# Altium integrated library Renesas Microcontroller R8C.IntLib: 628 symbols (part 24 of 33)
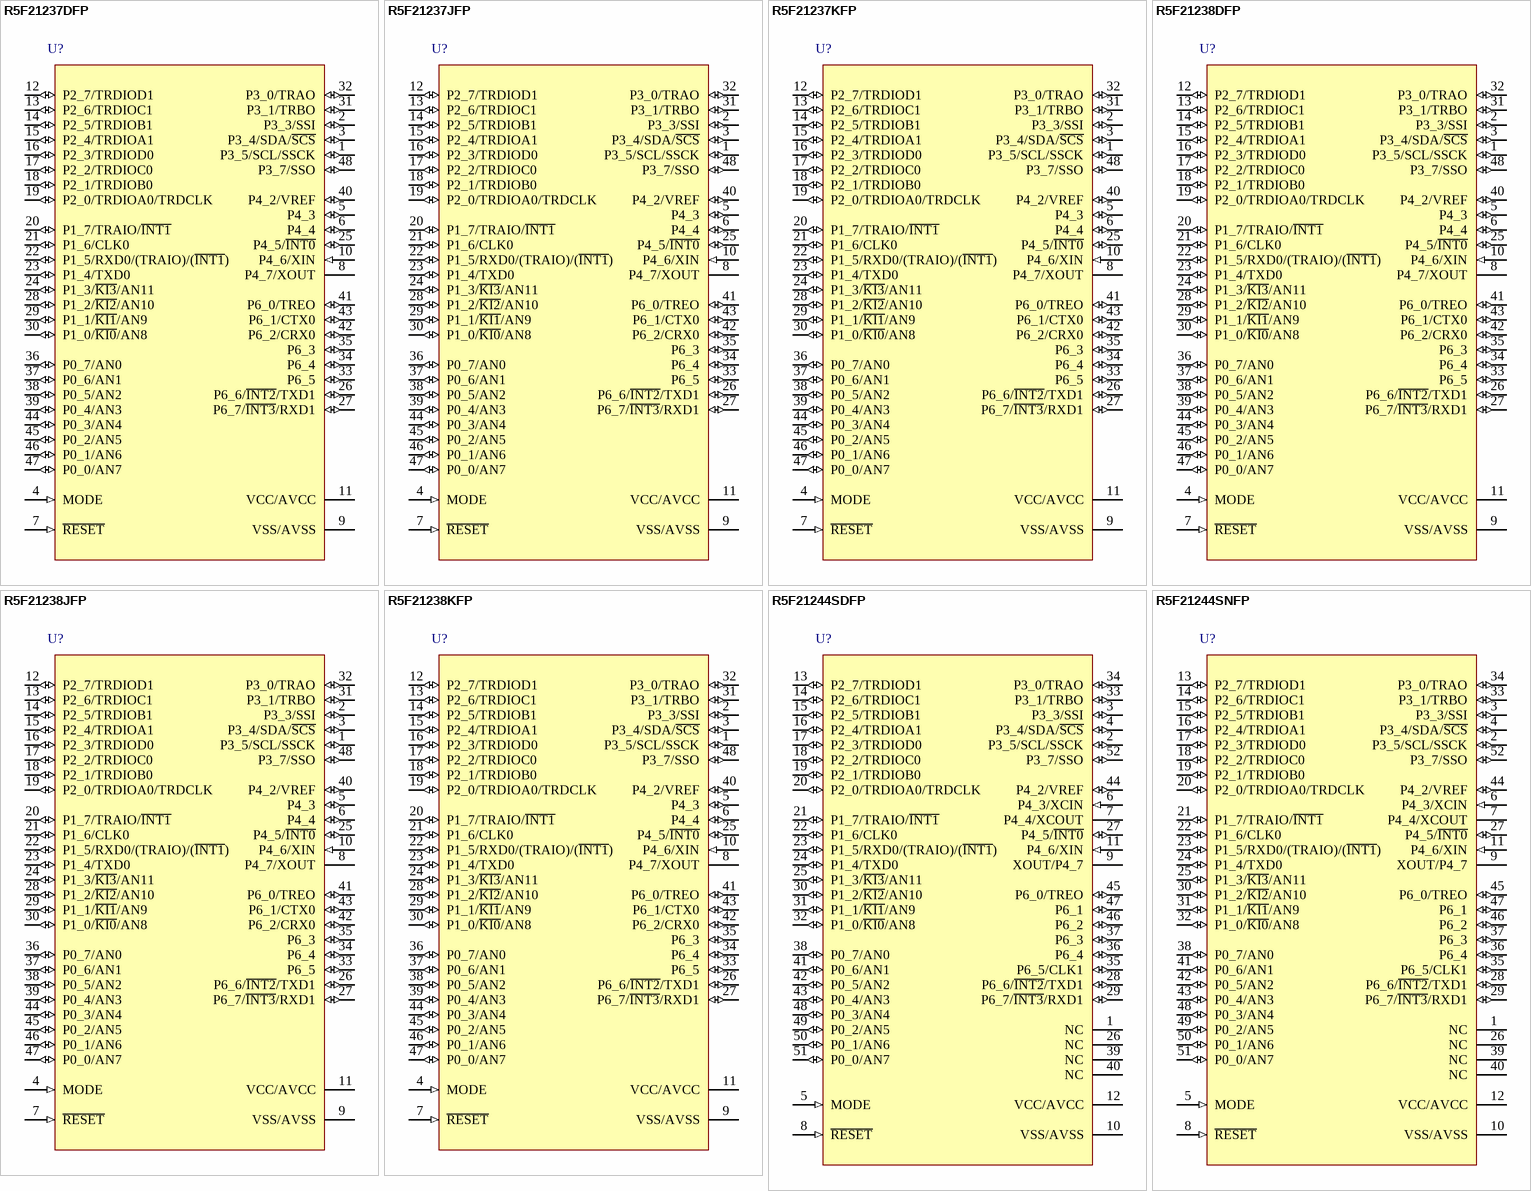
[diagram p139: symbols R5F21237DFP to R5F21244SNFP]

## R5F21238DFP
designator U?
R8C/23 Group Single Chip 16-Bit CMOS MCU, 64K ROM + 1K x2 Data Flash, 3K RAM, D Version; Published: 30-Oct-2009; DatasheetVersion: Rev.2.00, Aug-2008; PackageVersion: Oct-2005; PackageReference: PLQP0048KB-A; Publisher: Altium Limited; PackageDescription: 48-Pin Plastic Low Profile QFP, 7 x 7 x 1.4 mm Body, 0.5 mm Pitch; Code_JEITA: P-LQFP48-7x7-0.50; Code_IPC: SQFP50P900X900-48; ComponentLink1Description: Manufacturer Link; ComponentLink1URL: http://sg.renesas.com/fmwk.jsp?cnt=r8c_family_landing.jsp&fp=/products/mpumcu/r8c_family/; ComponentLink2Description: Datasheet; ComponentLink2URL: http://documentation.renesas.com/eng/products/mpumcu/rej03b0097_r8c2223ds.pdf; ComponentLink3Description: Packaging Specification; ComponentLink3URL: http://sg.renesas.com/media/products/common_info/package/pdf/ic/code/plqp0048kb_a.pdf
footprint PLQP0048KB-A_N (Shrink QFP, 48-Leads, Body 7x7mm, Pitch 0.5mm, IPC Medium Density)
footprint PLQP0048KB-A_L (Shrink QFP, 48-Leads, Body 7x7mm, Pitch 0.5mm, IPC High Density)
footprint PLQP0048KB-A_M (Shrink QFP, 48-Leads, Body 7x7mm, Pitch 0.5mm, IPC Low Density)
pins: 1 P3_5/SCL/SSCK (io), 2 P3_3/SSI (io), 3 P3_4/SDA/~{SCS} (io), 4 MODE (in), 5 P4_3 (io), 6 P4_4 (io), 7 ~{RESET} (in), 8 P4_7/XOUT, 9 VSS/AVSS (power), 10 P4_6/XIN (in), 11 VCC/AVCC (power), 12 P2_7/TRDIOD1 (io), 13 P2_6/TRDIOC1 (io), 14 P2_5/TRDIOB1 (io), 15 P2_4/TRDIOA1 (io), 16 P2_3/TRDIOD0 (io), 17 P2_2/TRDIOC0 (io), 18 P2_1/TRDIOB0 (io), 19 P2_0/TRDIOA0/TRDCLK (io), 20 P1_7/TRAIO/~{INT1} (io), 21 P1_6/CLK0 (io), 22 P1_5/RXD0/(TRAIO)/(~{INT1}) (io), 23 P1_4/TXD0 (io), 24 P1_3/~{KI3}/AN11 (io), 25 P4_5/~{INT0} (io), 26 P6_6/~{INT2}/TXD1 (io), 27 P6_7/~{INT3}/RXD1 (io), 28 P1_2/~{KI2}/AN10 (io), 29 P1_1/~{KI1}/AN9 (io), 30 P1_0/~{KI0}/AN8 (io), 31 P3_1/TRBO (io), 32 P3_0/TRAO (io), 33 P6_5 (io), 34 P6_4 (io), 35 P6_3 (io), 36 P0_7/AN0 (io), 37 P0_6/AN1 (io), 38 P0_5/AN2 (io), 39 P0_4/AN3 (io), 40 P4_2/VREF (io), 41 P6_0/TREO (io), 42 P6_2/CRX0 (io), 43 P6_1/CTX0 (io), 44 P0_3/AN4 (io), 45 P0_2/AN5 (io), 46 P0_1/AN6 (io), 47 P0_0/AN7 (io), 48 P3_7/SSO (io)

## R5F21238JFP
designator U?
R8C/23 Group Single Chip 16-Bit CMOS MCU, 64K ROM + 1K x2 Data Flash, 3K RAM, J Version; Published: 30-Oct-2009; DatasheetVersion: Rev.2.00, Aug-2008; PackageVersion: Oct-2005; PackageReference: PLQP0048KB-A; Publisher: Altium Limited; PackageDescription: 48-Pin Plastic Low Profile QFP, 7 x 7 x 1.4 mm Body, 0.5 mm Pitch; Code_JEITA: P-LQFP48-7x7-0.50; Code_IPC: SQFP50P900X900-48; ComponentLink1Description: Manufacturer Link; ComponentLink1URL: http://sg.renesas.com/fmwk.jsp?cnt=r8c_family_landing.jsp&fp=/products/mpumcu/r8c_family/; ComponentLink2Description: Datasheet; ComponentLink2URL: http://documentation.renesas.com/eng/products/mpumcu/rej03b0097_r8c2223ds.pdf; ComponentLink3Description: Packaging Specification; ComponentLink3URL: http://sg.renesas.com/media/products/common_info/package/pdf/ic/code/plqp0048kb_a.pdf
footprint PLQP0048KB-A_N (Shrink QFP, 48-Leads, Body 7x7mm, Pitch 0.5mm, IPC Medium Density)
footprint PLQP0048KB-A_L (Shrink QFP, 48-Leads, Body 7x7mm, Pitch 0.5mm, IPC High Density)
footprint PLQP0048KB-A_M (Shrink QFP, 48-Leads, Body 7x7mm, Pitch 0.5mm, IPC Low Density)
pins: 1 P3_5/SCL/SSCK (io), 2 P3_3/SSI (io), 3 P3_4/SDA/~{SCS} (io), 4 MODE (in), 5 P4_3 (io), 6 P4_4 (io), 7 ~{RESET} (in), 8 P4_7/XOUT, 9 VSS/AVSS (power), 10 P4_6/XIN (in), 11 VCC/AVCC (power), 12 P2_7/TRDIOD1 (io), 13 P2_6/TRDIOC1 (io), 14 P2_5/TRDIOB1 (io), 15 P2_4/TRDIOA1 (io), 16 P2_3/TRDIOD0 (io), 17 P2_2/TRDIOC0 (io), 18 P2_1/TRDIOB0 (io), 19 P2_0/TRDIOA0/TRDCLK (io), 20 P1_7/TRAIO/~{INT1} (io), 21 P1_6/CLK0 (io), 22 P1_5/RXD0/(TRAIO)/(~{INT1}) (io), 23 P1_4/TXD0 (io), 24 P1_3/~{KI3}/AN11 (io), 25 P4_5/~{INT0} (io), 26 P6_6/~{INT2}/TXD1 (io), 27 P6_7/~{INT3}/RXD1 (io), 28 P1_2/~{KI2}/AN10 (io), 29 P1_1/~{KI1}/AN9 (io), 30 P1_0/~{KI0}/AN8 (io), 31 P3_1/TRBO (io), 32 P3_0/TRAO (io), 33 P6_5 (io), 34 P6_4 (io), 35 P6_3 (io), 36 P0_7/AN0 (io), 37 P0_6/AN1 (io), 38 P0_5/AN2 (io), 39 P0_4/AN3 (io), 40 P4_2/VREF (io), 41 P6_0/TREO (io), 42 P6_2/CRX0 (io), 43 P6_1/CTX0 (io), 44 P0_3/AN4 (io), 45 P0_2/AN5 (io), 46 P0_1/AN6 (io), 47 P0_0/AN7 (io), 48 P3_7/SSO (io)

## R5F21238KFP
designator U?
R8C/23 Group Single Chip 16-Bit CMOS MCU, 64K ROM + 1K x2 Data Flash, 3K RAM, K Version; Published: 30-Oct-2009; DatasheetVersion: Rev.2.00, Aug-2008; PackageVersion: Oct-2005; PackageReference: PLQP0048KB-A; Publisher: Altium Limited; PackageDescription: 48-Pin Plastic Low Profile QFP, 7 x 7 x 1.4 mm Body, 0.5 mm Pitch; Code_JEITA: P-LQFP48-7x7-0.50; Code_IPC: SQFP50P900X900-48; ComponentLink1Description: Manufacturer Link; ComponentLink1URL: http://sg.renesas.com/fmwk.jsp?cnt=r8c_family_landing.jsp&fp=/products/mpumcu/r8c_family/; ComponentLink2Description: Datasheet; ComponentLink2URL: http://documentation.renesas.com/eng/products/mpumcu/rej03b0097_r8c2223ds.pdf; ComponentLink3Description: Packaging Specification; ComponentLink3URL: http://sg.renesas.com/media/products/common_info/package/pdf/ic/code/plqp0048kb_a.pdf
footprint PLQP0048KB-A_N (Shrink QFP, 48-Leads, Body 7x7mm, Pitch 0.5mm, IPC Medium Density)
footprint PLQP0048KB-A_L (Shrink QFP, 48-Leads, Body 7x7mm, Pitch 0.5mm, IPC High Density)
footprint PLQP0048KB-A_M (Shrink QFP, 48-Leads, Body 7x7mm, Pitch 0.5mm, IPC Low Density)
pins: 1 P3_5/SCL/SSCK (io), 2 P3_3/SSI (io), 3 P3_4/SDA/~{SCS} (io), 4 MODE (in), 5 P4_3 (io), 6 P4_4 (io), 7 ~{RESET} (in), 8 P4_7/XOUT, 9 VSS/AVSS (power), 10 P4_6/XIN (in), 11 VCC/AVCC (power), 12 P2_7/TRDIOD1 (io), 13 P2_6/TRDIOC1 (io), 14 P2_5/TRDIOB1 (io), 15 P2_4/TRDIOA1 (io), 16 P2_3/TRDIOD0 (io), 17 P2_2/TRDIOC0 (io), 18 P2_1/TRDIOB0 (io), 19 P2_0/TRDIOA0/TRDCLK (io), 20 P1_7/TRAIO/~{INT1} (io), 21 P1_6/CLK0 (io), 22 P1_5/RXD0/(TRAIO)/(~{INT1}) (io), 23 P1_4/TXD0 (io), 24 P1_3/~{KI3}/AN11 (io), 25 P4_5/~{INT0} (io), 26 P6_6/~{INT2}/TXD1 (io), 27 P6_7/~{INT3}/RXD1 (io), 28 P1_2/~{KI2}/AN10 (io), 29 P1_1/~{KI1}/AN9 (io), 30 P1_0/~{KI0}/AN8 (io), 31 P3_1/TRBO (io), 32 P3_0/TRAO (io), 33 P6_5 (io), 34 P6_4 (io), 35 P6_3 (io), 36 P0_7/AN0 (io), 37 P0_6/AN1 (io), 38 P0_5/AN2 (io), 39 P0_4/AN3 (io), 40 P4_2/VREF (io), 41 P6_0/TREO (io), 42 P6_2/CRX0 (io), 43 P6_1/CTX0 (io), 44 P0_3/AN4 (io), 45 P0_2/AN5 (io), 46 P0_1/AN6 (io), 47 P0_0/AN7 (io), 48 P3_7/SSO (io)

## R5F21244SDFP
designator U?
R8C/24 Group Single Chip 16-Bit CMOS MCU, 16K ROM, 1K RAM, D Version; Published: 30-Oct-2009; DatasheetVersion: Rev.3.00, Feb-2008; PackageVersion: Nov-2007; PackageReference: PLQP0052JA-A; Publisher: Altium Limited; PackageDescription: 52-Pin Plastic Low Profile QFP, 10 x 10 x 1.4 mm Body, 0.65 mm Pitch; Code_JEITA: P-LQFP52-10x10-0.65; ComponentLink1Description: Manufacturer Link; ComponentLink1URL: http://sg.renesas.com/fmwk.jsp?cnt=r8c_family_landing.jsp&fp=/products/mpumcu/r8c_family/; ComponentLink2Description: Datasheet; ComponentLink2URL: http://documentation.renesas.com/eng/products/mpumcu/rej03b0117_r8c2425ds.pdf; ComponentLink3Description: Packaging Specification; ComponentLink3URL: http://sg.renesas.com/media/products/common_info/package/pdf/ic/code/plqp0052ja_a.pdf
footprint PLQP0052JA-A_N (QFP, 52-Leads, Body 10x10mm, Pitch 0.65mm, IPC Medium Density)
footprint PLQP0052JA-A_L (QFP, 52-Leads, Body 10x10mm, Pitch 0.65mm, IPC High Density)
footprint PLQP0052JA-A_M (QFP, 52-Leads, Body 10x10mm, Pitch 0.65mm, IPC Low Density)
pins: 1 NC, 2 P3_5/SCL/SSCK (io), 3 P3_3/SSI (io), 4 P3_4/SDA/~{SCS} (io), 5 MODE (in), 6 P4_3/XCIN (in), 7 P4_4/XCOUT, 8 ~{RESET} (in), 9 XOUT/P4_7, 10 VSS/AVSS (power), 11 P4_6/XIN (in), 12 VCC/AVCC (power), 13 P2_7/TRDIOD1 (io), 14 P2_6/TRDIOC1 (io), 15 P2_5/TRDIOB1 (io), 16 P2_4/TRDIOA1 (io), 17 P2_3/TRDIOD0 (io), 18 P2_2/TRDIOC0 (io), 19 P2_1/TRDIOB0 (io), 20 P2_0/TRDIOA0/TRDCLK (io), 21 P1_7/TRAIO/~{INT1} (io), 22 P1_6/CLK0 (io), 23 P1_5/RXD0/(TRAIO)/(~{INT1}) (io), 24 P1_4/TXD0 (io), 25 P1_3/~{KI3}/AN11 (io), 26 NC, 27 P4_5/~{INT0} (io), 28 P6_6/~{INT2}/TXD1 (io), 29 P6_7/~{INT3}/RXD1 (io), 30 P1_2/~{KI2}/AN10 (io), 31 P1_1/~{KI1}/AN9 (io), 32 P1_0/~{KI0}/AN8 (io), 33 P3_1/TRBO (io), 34 P3_0/TRAO (io), 35 P6_5/CLK1 (io), 36 P6_4 (io), 37 P6_3 (io), 38 P0_7/AN0 (io), 39 NC, 40 NC, 41 P0_6/AN1 (io), 42 P0_5/AN2 (io), 43 P0_4/AN3 (io), 44 P4_2/VREF (io), 45 P6_0/TREO (io), 46 P6_2 (io), 47 P6_1 (io), 48 P0_3/AN4 (io), 49 P0_2/AN5 (io), 50 P0_1/AN6 (io), 51 P0_0/AN7 (io), 52 P3_7/SSO (io)

## R5F21244SNFP
designator U?
R8C/24 Group Single Chip 16-Bit CMOS MCU, 16K ROM, 1K RAM, N Version; Published: 30-Oct-2009; DatasheetVersion: Rev.3.00, Feb-2008; PackageVersion: Nov-2007; PackageReference: PLQP0052JA-A; Publisher: Altium Limited; PackageDescription: 52-Pin Plastic Low Profile QFP, 10 x 10 x 1.4 mm Body, 0.65 mm Pitch; Code_JEITA: P-LQFP52-10x10-0.65; ComponentLink1Description: Manufacturer Link; ComponentLink1URL: http://sg.renesas.com/fmwk.jsp?cnt=r8c_family_landing.jsp&fp=/products/mpumcu/r8c_family/; ComponentLink2Description: Datasheet; ComponentLink2URL: http://documentation.renesas.com/eng/products/mpumcu/rej03b0117_r8c2425ds.pdf; ComponentLink3Description: Packaging Specification; ComponentLink3URL: http://sg.renesas.com/media/products/common_info/package/pdf/ic/code/plqp0052ja_a.pdf
footprint PLQP0052JA-A_N (QFP, 52-Leads, Body 10x10mm, Pitch 0.65mm, IPC Medium Density)
footprint PLQP0052JA-A_L (QFP, 52-Leads, Body 10x10mm, Pitch 0.65mm, IPC High Density)
footprint PLQP0052JA-A_M (QFP, 52-Leads, Body 10x10mm, Pitch 0.65mm, IPC Low Density)
pins: 1 NC, 2 P3_5/SCL/SSCK (io), 3 P3_3/SSI (io), 4 P3_4/SDA/~{SCS} (io), 5 MODE (in), 6 P4_3/XCIN (in), 7 P4_4/XCOUT, 8 ~{RESET} (in), 9 XOUT/P4_7, 10 VSS/AVSS (power), 11 P4_6/XIN (in), 12 VCC/AVCC (power), 13 P2_7/TRDIOD1 (io), 14 P2_6/TRDIOC1 (io), 15 P2_5/TRDIOB1 (io), 16 P2_4/TRDIOA1 (io), 17 P2_3/TRDIOD0 (io), 18 P2_2/TRDIOC0 (io), 19 P2_1/TRDIOB0 (io), 20 P2_0/TRDIOA0/TRDCLK (io), 21 P1_7/TRAIO/~{INT1} (io), 22 P1_6/CLK0 (io), 23 P1_5/RXD0/(TRAIO)/(~{INT1}) (io), 24 P1_4/TXD0 (io), 25 P1_3/~{KI3}/AN11 (io), 26 NC, 27 P4_5/~{INT0} (io), 28 P6_6/~{INT2}/TXD1 (io), 29 P6_7/~{INT3}/RXD1 (io), 30 P1_2/~{KI2}/AN10 (io), 31 P1_1/~{KI1}/AN9 (io), 32 P1_0/~{KI0}/AN8 (io), 33 P3_1/TRBO (io), 34 P3_0/TRAO (io), 35 P6_5/CLK1 (io), 36 P6_4 (io), 37 P6_3 (io), 38 P0_7/AN0 (io), 39 NC, 40 NC, 41 P0_6/AN1 (io), 42 P0_5/AN2 (io), 43 P0_4/AN3 (io), 44 P4_2/VREF (io), 45 P6_0/TREO (io), 46 P6_2 (io), 47 P6_1 (io), 48 P0_3/AN4 (io), 49 P0_2/AN5 (io), 50 P0_1/AN6 (io), 51 P0_0/AN7 (io), 52 P3_7/SSO (io)

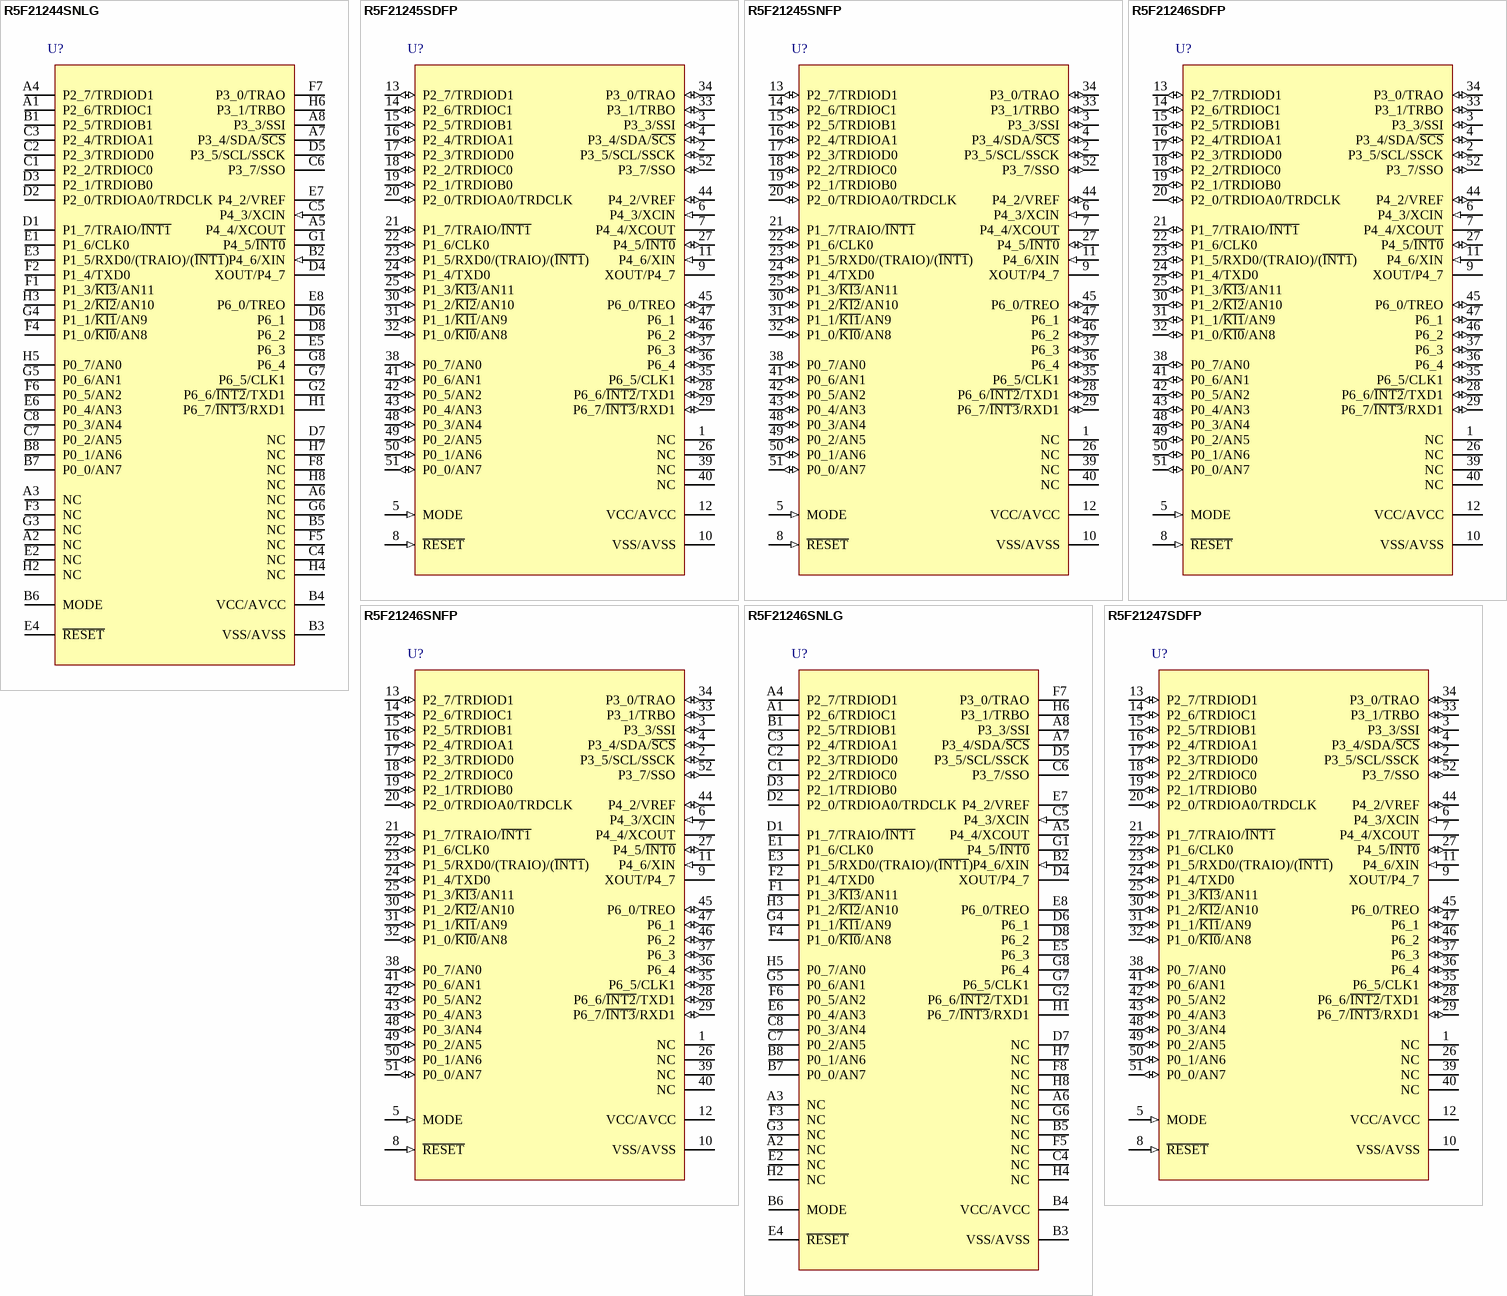
[diagram p83: symbols R5F21244SNLG to R5F21247SDFP]

## R5F21244SNLG
designator U?
R8C/24 Group Single Chip 16-Bit CMOS MCU, 16K ROM, 1K RAM, N Version; Published: 30-Oct-2009; DatasheetVersion: Rev.3.00, Feb-2008; PackageVersion: Sep-2005; PackageReference: PTLG0064JA-A; Publisher: Altium Limited; PackageDescription: 64-Ball Plastic Thin Fine-Pitch BGA, 6 x 6 mm Body, 0.65 mm Pitch; Code_JEITA: P-TFLGA64-6x6-0.65; ComponentLink1Description: Manufacturer Link; ComponentLink1URL: http://sg.renesas.com/fmwk.jsp?cnt=r8c_family_landing.jsp&fp=/products/mpumcu/r8c_family/; ComponentLink2Description: Datasheet; ComponentLink2URL: http://documentation.renesas.com/eng/products/mpumcu/rej03b0117_r8c2425ds.pdf; ComponentLink3Description: Packaging Specification; ComponentLink3URL: http://sg.renesas.com/media/products/common_info/package/pdf/ic/code/ptlg0064ja_a.pdf
footprint PTLG0064JA-A (BGA, 64-Leads, Body 6x6mm, Pitch 0.65mm)
pins: A1 P2_6/TRDIOC1, A2 NC, A3 NC, A4 P2_7/TRDIOD1, A5 P4_4/XCOUT, A6 NC, A7 P3_4/SDA/~{SCS}, A8 P3_3/SSI, B1 P2_5/TRDIOB1, B2 P4_6/XIN (in), B3 VSS/AVSS, B4 VCC/AVCC, B5 NC, B6 MODE, B7 P0_0/AN7, B8 P0_1/AN6, C1 P2_2/TRDIOC0, C2 P2_3/TRDIOD0, C3 P2_4/TRDIOA1, C4 NC, C5 P4_3/XCIN (in), C6 P3_7/SSO, C7 P0_2/AN5, C8 P0_3/AN4, D1 P1_7/TRAIO/~{INT1}, D2 P2_0/TRDIOA0/TRDCLK, D3 P2_1/TRDIOB0, D4 XOUT/P4_7, D5 P3_5/SCL/SSCK, D6 P6_1, D7 NC, D8 P6_2, E1 P1_6/CLK0, E2 NC, E3 P1_5/RXD0/(TRAIO)/(~{INT1}), E4 ~{RESET}, E5 P6_3, E6 P0_4/AN3, E7 P4_2/VREF, E8 P6_0/TREO, F1 P1_3/~{KI3}/AN11, F2 P1_4/TXD0, F3 NC, F4 P1_0/~{KI0}/AN8, F5 NC, F6 P0_5/AN2, F7 P3_0/TRAO, F8 NC, G1 P4_5/~{INT0}, G2 P6_6/~{INT2}/TXD1, G3 NC, G4 P1_1/~{KI1}/AN9, G5 P0_6/AN1, G6 NC, G7 P6_5/CLK1, G8 P6_4, H1 P6_7/~{INT3}/RXD1, H2 NC, H3 P1_2/~{KI2}/AN10, H4 NC, H5 P0_7/AN0, H6 P3_1/TRBO, H7 NC, H8 NC

## R5F21245SDFP
designator U?
R8C/24 Group Single Chip 16-Bit CMOS MCU, 24K ROM, 2K RAM, D Version; Published: 30-Oct-2009; DatasheetVersion: Rev.3.00, Feb-2008; PackageVersion: Nov-2007; PackageReference: PLQP0052JA-A; Publisher: Altium Limited; PackageDescription: 52-Pin Plastic Low Profile QFP, 10 x 10 x 1.4 mm Body, 0.65 mm Pitch; Code_JEITA: P-LQFP52-10x10-0.65; ComponentLink1Description: Manufacturer Link; ComponentLink1URL: http://sg.renesas.com/fmwk.jsp?cnt=r8c_family_landing.jsp&fp=/products/mpumcu/r8c_family/; ComponentLink2Description: Datasheet; ComponentLink2URL: http://documentation.renesas.com/eng/products/mpumcu/rej03b0117_r8c2425ds.pdf; ComponentLink3Description: Packaging Specification; ComponentLink3URL: http://sg.renesas.com/media/products/common_info/package/pdf/ic/code/plqp0052ja_a.pdf
footprint PLQP0052JA-A_N (QFP, 52-Leads, Body 10x10mm, Pitch 0.65mm, IPC Medium Density)
footprint PLQP0052JA-A_L (QFP, 52-Leads, Body 10x10mm, Pitch 0.65mm, IPC High Density)
footprint PLQP0052JA-A_M (QFP, 52-Leads, Body 10x10mm, Pitch 0.65mm, IPC Low Density)
pins: 1 NC, 2 P3_5/SCL/SSCK (io), 3 P3_3/SSI (io), 4 P3_4/SDA/~{SCS} (io), 5 MODE (in), 6 P4_3/XCIN (in), 7 P4_4/XCOUT, 8 ~{RESET} (in), 9 XOUT/P4_7, 10 VSS/AVSS (power), 11 P4_6/XIN (in), 12 VCC/AVCC (power), 13 P2_7/TRDIOD1 (io), 14 P2_6/TRDIOC1 (io), 15 P2_5/TRDIOB1 (io), 16 P2_4/TRDIOA1 (io), 17 P2_3/TRDIOD0 (io), 18 P2_2/TRDIOC0 (io), 19 P2_1/TRDIOB0 (io), 20 P2_0/TRDIOA0/TRDCLK (io), 21 P1_7/TRAIO/~{INT1} (io), 22 P1_6/CLK0 (io), 23 P1_5/RXD0/(TRAIO)/(~{INT1}) (io), 24 P1_4/TXD0 (io), 25 P1_3/~{KI3}/AN11 (io), 26 NC, 27 P4_5/~{INT0} (io), 28 P6_6/~{INT2}/TXD1 (io), 29 P6_7/~{INT3}/RXD1 (io), 30 P1_2/~{KI2}/AN10 (io), 31 P1_1/~{KI1}/AN9 (io), 32 P1_0/~{KI0}/AN8 (io), 33 P3_1/TRBO (io), 34 P3_0/TRAO (io), 35 P6_5/CLK1 (io), 36 P6_4 (io), 37 P6_3 (io), 38 P0_7/AN0 (io), 39 NC, 40 NC, 41 P0_6/AN1 (io), 42 P0_5/AN2 (io), 43 P0_4/AN3 (io), 44 P4_2/VREF (io), 45 P6_0/TREO (io), 46 P6_2 (io), 47 P6_1 (io), 48 P0_3/AN4 (io), 49 P0_2/AN5 (io), 50 P0_1/AN6 (io), 51 P0_0/AN7 (io), 52 P3_7/SSO (io)

## R5F21245SNFP
designator U?
R8C/24 Group Single Chip 16-Bit CMOS MCU, 24K ROM, 2K RAM, N Version; Published: 30-Oct-2009; DatasheetVersion: Rev.3.00, Feb-2008; PackageVersion: Nov-2007; PackageReference: PLQP0052JA-A; Publisher: Altium Limited; PackageDescription: 52-Pin Plastic Low Profile QFP, 10 x 10 x 1.4 mm Body, 0.65 mm Pitch; Code_JEITA: P-LQFP52-10x10-0.65; ComponentLink1Description: Manufacturer Link; ComponentLink1URL: http://sg.renesas.com/fmwk.jsp?cnt=r8c_family_landing.jsp&fp=/products/mpumcu/r8c_family/; ComponentLink2Description: Datasheet; ComponentLink2URL: http://documentation.renesas.com/eng/products/mpumcu/rej03b0117_r8c2425ds.pdf; ComponentLink3Description: Packaging Specification; ComponentLink3URL: http://sg.renesas.com/media/products/common_info/package/pdf/ic/code/plqp0052ja_a.pdf
footprint PLQP0052JA-A_N (QFP, 52-Leads, Body 10x10mm, Pitch 0.65mm, IPC Medium Density)
footprint PLQP0052JA-A_L (QFP, 52-Leads, Body 10x10mm, Pitch 0.65mm, IPC High Density)
footprint PLQP0052JA-A_M (QFP, 52-Leads, Body 10x10mm, Pitch 0.65mm, IPC Low Density)
pins: 1 NC, 2 P3_5/SCL/SSCK (io), 3 P3_3/SSI (io), 4 P3_4/SDA/~{SCS} (io), 5 MODE (in), 6 P4_3/XCIN (in), 7 P4_4/XCOUT, 8 ~{RESET} (in), 9 XOUT/P4_7, 10 VSS/AVSS (power), 11 P4_6/XIN (in), 12 VCC/AVCC (power), 13 P2_7/TRDIOD1 (io), 14 P2_6/TRDIOC1 (io), 15 P2_5/TRDIOB1 (io), 16 P2_4/TRDIOA1 (io), 17 P2_3/TRDIOD0 (io), 18 P2_2/TRDIOC0 (io), 19 P2_1/TRDIOB0 (io), 20 P2_0/TRDIOA0/TRDCLK (io), 21 P1_7/TRAIO/~{INT1} (io), 22 P1_6/CLK0 (io), 23 P1_5/RXD0/(TRAIO)/(~{INT1}) (io), 24 P1_4/TXD0 (io), 25 P1_3/~{KI3}/AN11 (io), 26 NC, 27 P4_5/~{INT0} (io), 28 P6_6/~{INT2}/TXD1 (io), 29 P6_7/~{INT3}/RXD1 (io), 30 P1_2/~{KI2}/AN10 (io), 31 P1_1/~{KI1}/AN9 (io), 32 P1_0/~{KI0}/AN8 (io), 33 P3_1/TRBO (io), 34 P3_0/TRAO (io), 35 P6_5/CLK1 (io), 36 P6_4 (io), 37 P6_3 (io), 38 P0_7/AN0 (io), 39 NC, 40 NC, 41 P0_6/AN1 (io), 42 P0_5/AN2 (io), 43 P0_4/AN3 (io), 44 P4_2/VREF (io), 45 P6_0/TREO (io), 46 P6_2 (io), 47 P6_1 (io), 48 P0_3/AN4 (io), 49 P0_2/AN5 (io), 50 P0_1/AN6 (io), 51 P0_0/AN7 (io), 52 P3_7/SSO (io)

## R5F21246SDFP
designator U?
R8C/24 Group Single Chip 16-Bit CMOS MCU, 32K ROM, 2K RAM, D Version; Published: 30-Oct-2009; DatasheetVersion: Rev.3.00, Feb-2008; PackageVersion: Nov-2007; PackageReference: PLQP0052JA-A; Publisher: Altium Limited; PackageDescription: 52-Pin Plastic Low Profile QFP, 10 x 10 x 1.4 mm Body, 0.65 mm Pitch; Code_JEITA: P-LQFP52-10x10-0.65; ComponentLink1Description: Manufacturer Link; ComponentLink1URL: http://sg.renesas.com/fmwk.jsp?cnt=r8c_family_landing.jsp&fp=/products/mpumcu/r8c_family/; ComponentLink2Description: Datasheet; ComponentLink2URL: http://documentation.renesas.com/eng/products/mpumcu/rej03b0117_r8c2425ds.pdf; ComponentLink3Description: Packaging Specification; ComponentLink3URL: http://sg.renesas.com/media/products/common_info/package/pdf/ic/code/plqp0052ja_a.pdf
footprint PLQP0052JA-A_N (QFP, 52-Leads, Body 10x10mm, Pitch 0.65mm, IPC Medium Density)
footprint PLQP0052JA-A_L (QFP, 52-Leads, Body 10x10mm, Pitch 0.65mm, IPC High Density)
footprint PLQP0052JA-A_M (QFP, 52-Leads, Body 10x10mm, Pitch 0.65mm, IPC Low Density)
pins: 1 NC, 2 P3_5/SCL/SSCK (io), 3 P3_3/SSI (io), 4 P3_4/SDA/~{SCS} (io), 5 MODE (in), 6 P4_3/XCIN (in), 7 P4_4/XCOUT, 8 ~{RESET} (in), 9 XOUT/P4_7, 10 VSS/AVSS (power), 11 P4_6/XIN (in), 12 VCC/AVCC (power), 13 P2_7/TRDIOD1 (io), 14 P2_6/TRDIOC1 (io), 15 P2_5/TRDIOB1 (io), 16 P2_4/TRDIOA1 (io), 17 P2_3/TRDIOD0 (io), 18 P2_2/TRDIOC0 (io), 19 P2_1/TRDIOB0 (io), 20 P2_0/TRDIOA0/TRDCLK (io), 21 P1_7/TRAIO/~{INT1} (io), 22 P1_6/CLK0 (io), 23 P1_5/RXD0/(TRAIO)/(~{INT1}) (io), 24 P1_4/TXD0 (io), 25 P1_3/~{KI3}/AN11 (io), 26 NC, 27 P4_5/~{INT0} (io), 28 P6_6/~{INT2}/TXD1 (io), 29 P6_7/~{INT3}/RXD1 (io), 30 P1_2/~{KI2}/AN10 (io), 31 P1_1/~{KI1}/AN9 (io), 32 P1_0/~{KI0}/AN8 (io), 33 P3_1/TRBO (io), 34 P3_0/TRAO (io), 35 P6_5/CLK1 (io), 36 P6_4 (io), 37 P6_3 (io), 38 P0_7/AN0 (io), 39 NC, 40 NC, 41 P0_6/AN1 (io), 42 P0_5/AN2 (io), 43 P0_4/AN3 (io), 44 P4_2/VREF (io), 45 P6_0/TREO (io), 46 P6_2 (io), 47 P6_1 (io), 48 P0_3/AN4 (io), 49 P0_2/AN5 (io), 50 P0_1/AN6 (io), 51 P0_0/AN7 (io), 52 P3_7/SSO (io)

## R5F21246SNFP
designator U?
R8C/24 Group Single Chip 16-Bit CMOS MCU, 32K ROM, 2K RAM, N Version; Published: 30-Oct-2009; DatasheetVersion: Rev.3.00, Feb-2008; PackageVersion: Nov-2007; PackageReference: PLQP0052JA-A; Publisher: Altium Limited; PackageDescription: 52-Pin Plastic Low Profile QFP, 10 x 10 x 1.4 mm Body, 0.65 mm Pitch; Code_JEITA: P-LQFP52-10x10-0.65; ComponentLink1Description: Manufacturer Link; ComponentLink1URL: http://sg.renesas.com/fmwk.jsp?cnt=r8c_family_landing.jsp&fp=/products/mpumcu/r8c_family/; ComponentLink2Description: Datasheet; ComponentLink2URL: http://documentation.renesas.com/eng/products/mpumcu/rej03b0117_r8c2425ds.pdf; ComponentLink3Description: Packaging Specification; ComponentLink3URL: http://sg.renesas.com/media/products/common_info/package/pdf/ic/code/plqp0052ja_a.pdf
footprint PLQP0052JA-A_N (QFP, 52-Leads, Body 10x10mm, Pitch 0.65mm, IPC Medium Density)
footprint PLQP0052JA-A_L (QFP, 52-Leads, Body 10x10mm, Pitch 0.65mm, IPC High Density)
footprint PLQP0052JA-A_M (QFP, 52-Leads, Body 10x10mm, Pitch 0.65mm, IPC Low Density)
pins: 1 NC, 2 P3_5/SCL/SSCK (io), 3 P3_3/SSI (io), 4 P3_4/SDA/~{SCS} (io), 5 MODE (in), 6 P4_3/XCIN (in), 7 P4_4/XCOUT, 8 ~{RESET} (in), 9 XOUT/P4_7, 10 VSS/AVSS (power), 11 P4_6/XIN (in), 12 VCC/AVCC (power), 13 P2_7/TRDIOD1 (io), 14 P2_6/TRDIOC1 (io), 15 P2_5/TRDIOB1 (io), 16 P2_4/TRDIOA1 (io), 17 P2_3/TRDIOD0 (io), 18 P2_2/TRDIOC0 (io), 19 P2_1/TRDIOB0 (io), 20 P2_0/TRDIOA0/TRDCLK (io), 21 P1_7/TRAIO/~{INT1} (io), 22 P1_6/CLK0 (io), 23 P1_5/RXD0/(TRAIO)/(~{INT1}) (io), 24 P1_4/TXD0 (io), 25 P1_3/~{KI3}/AN11 (io), 26 NC, 27 P4_5/~{INT0} (io), 28 P6_6/~{INT2}/TXD1 (io), 29 P6_7/~{INT3}/RXD1 (io), 30 P1_2/~{KI2}/AN10 (io), 31 P1_1/~{KI1}/AN9 (io), 32 P1_0/~{KI0}/AN8 (io), 33 P3_1/TRBO (io), 34 P3_0/TRAO (io), 35 P6_5/CLK1 (io), 36 P6_4 (io), 37 P6_3 (io), 38 P0_7/AN0 (io), 39 NC, 40 NC, 41 P0_6/AN1 (io), 42 P0_5/AN2 (io), 43 P0_4/AN3 (io), 44 P4_2/VREF (io), 45 P6_0/TREO (io), 46 P6_2 (io), 47 P6_1 (io), 48 P0_3/AN4 (io), 49 P0_2/AN5 (io), 50 P0_1/AN6 (io), 51 P0_0/AN7 (io), 52 P3_7/SSO (io)

## R5F21246SNLG
designator U?
R8C/24 Group Single Chip 16-Bit CMOS MCU, 32K ROM, 2K RAM, N Version; Published: 30-Oct-2009; DatasheetVersion: Rev.3.00, Feb-2008; PackageVersion: Sep-2005; PackageReference: PTLG0064JA-A; Publisher: Altium Limited; PackageDescription: 64-Ball Plastic Thin Fine-Pitch BGA, 6 x 6 mm Body, 0.65 mm Pitch; Code_JEITA: P-TFLGA64-6x6-0.65; ComponentLink1Description: Manufacturer Link; ComponentLink1URL: http://sg.renesas.com/fmwk.jsp?cnt=r8c_family_landing.jsp&fp=/products/mpumcu/r8c_family/; ComponentLink2Description: Datasheet; ComponentLink2URL: http://documentation.renesas.com/eng/products/mpumcu/rej03b0117_r8c2425ds.pdf; ComponentLink3Description: Packaging Specification; ComponentLink3URL: http://sg.renesas.com/media/products/common_info/package/pdf/ic/code/ptlg0064ja_a.pdf
footprint PTLG0064JA-A (BGA, 64-Leads, Body 6x6mm, Pitch 0.65mm)
pins: A1 P2_6/TRDIOC1, A2 NC, A3 NC, A4 P2_7/TRDIOD1, A5 P4_4/XCOUT, A6 NC, A7 P3_4/SDA/~{SCS}, A8 P3_3/SSI, B1 P2_5/TRDIOB1, B2 P4_6/XIN (in), B3 VSS/AVSS, B4 VCC/AVCC, B5 NC, B6 MODE, B7 P0_0/AN7, B8 P0_1/AN6, C1 P2_2/TRDIOC0, C2 P2_3/TRDIOD0, C3 P2_4/TRDIOA1, C4 NC, C5 P4_3/XCIN (in), C6 P3_7/SSO, C7 P0_2/AN5, C8 P0_3/AN4, D1 P1_7/TRAIO/~{INT1}, D2 P2_0/TRDIOA0/TRDCLK, D3 P2_1/TRDIOB0, D4 XOUT/P4_7, D5 P3_5/SCL/SSCK, D6 P6_1, D7 NC, D8 P6_2, E1 P1_6/CLK0, E2 NC, E3 P1_5/RXD0/(TRAIO)/(~{INT1}), E4 ~{RESET}, E5 P6_3, E6 P0_4/AN3, E7 P4_2/VREF, E8 P6_0/TREO, F1 P1_3/~{KI3}/AN11, F2 P1_4/TXD0, F3 NC, F4 P1_0/~{KI0}/AN8, F5 NC, F6 P0_5/AN2, F7 P3_0/TRAO, F8 NC, G1 P4_5/~{INT0}, G2 P6_6/~{INT2}/TXD1, G3 NC, G4 P1_1/~{KI1}/AN9, G5 P0_6/AN1, G6 NC, G7 P6_5/CLK1, G8 P6_4, H1 P6_7/~{INT3}/RXD1, H2 NC, H3 P1_2/~{KI2}/AN10, H4 NC, H5 P0_7/AN0, H6 P3_1/TRBO, H7 NC, H8 NC

## R5F21247SDFP
designator U?
R8C/24 Group Single Chip 16-Bit CMOS MCU, 48K ROM, 2.5K RAM, D Version; Published: 30-Oct-2009; DatasheetVersion: Rev.3.00, Feb-2008; PackageVersion: Nov-2007; PackageReference: PLQP0052JA-A; Publisher: Altium Limited; PackageDescription: 52-Pin Plastic Low Profile QFP, 10 x 10 x 1.4 mm Body, 0.65 mm Pitch; Code_JEITA: P-LQFP52-10x10-0.65; ComponentLink1Description: Manufacturer Link; ComponentLink1URL: http://sg.renesas.com/fmwk.jsp?cnt=r8c_family_landing.jsp&fp=/products/mpumcu/r8c_family/; ComponentLink2Description: Datasheet; ComponentLink2URL: http://documentation.renesas.com/eng/products/mpumcu/rej03b0117_r8c2425ds.pdf; ComponentLink3Description: Packaging Specification; ComponentLink3URL: http://sg.renesas.com/media/products/common_info/package/pdf/ic/code/plqp0052ja_a.pdf
footprint PLQP0052JA-A_N (QFP, 52-Leads, Body 10x10mm, Pitch 0.65mm, IPC Medium Density)
footprint PLQP0052JA-A_L (QFP, 52-Leads, Body 10x10mm, Pitch 0.65mm, IPC High Density)
footprint PLQP0052JA-A_M (QFP, 52-Leads, Body 10x10mm, Pitch 0.65mm, IPC Low Density)
pins: 1 NC, 2 P3_5/SCL/SSCK (io), 3 P3_3/SSI (io), 4 P3_4/SDA/~{SCS} (io), 5 MODE (in), 6 P4_3/XCIN (in), 7 P4_4/XCOUT, 8 ~{RESET} (in), 9 XOUT/P4_7, 10 VSS/AVSS (power), 11 P4_6/XIN (in), 12 VCC/AVCC (power), 13 P2_7/TRDIOD1 (io), 14 P2_6/TRDIOC1 (io), 15 P2_5/TRDIOB1 (io), 16 P2_4/TRDIOA1 (io), 17 P2_3/TRDIOD0 (io), 18 P2_2/TRDIOC0 (io), 19 P2_1/TRDIOB0 (io), 20 P2_0/TRDIOA0/TRDCLK (io), 21 P1_7/TRAIO/~{INT1} (io), 22 P1_6/CLK0 (io), 23 P1_5/RXD0/(TRAIO)/(~{INT1}) (io), 24 P1_4/TXD0 (io), 25 P1_3/~{KI3}/AN11 (io), 26 NC, 27 P4_5/~{INT0} (io), 28 P6_6/~{INT2}/TXD1 (io), 29 P6_7/~{INT3}/RXD1 (io), 30 P1_2/~{KI2}/AN10 (io), 31 P1_1/~{KI1}/AN9 (io), 32 P1_0/~{KI0}/AN8 (io), 33 P3_1/TRBO (io), 34 P3_0/TRAO (io), 35 P6_5/CLK1 (io), 36 P6_4 (io), 37 P6_3 (io), 38 P0_7/AN0 (io), 39 NC, 40 NC, 41 P0_6/AN1 (io), 42 P0_5/AN2 (io), 43 P0_4/AN3 (io), 44 P4_2/VREF (io), 45 P6_0/TREO (io), 46 P6_2 (io), 47 P6_1 (io), 48 P0_3/AN4 (io), 49 P0_2/AN5 (io), 50 P0_1/AN6 (io), 51 P0_0/AN7 (io), 52 P3_7/SSO (io)

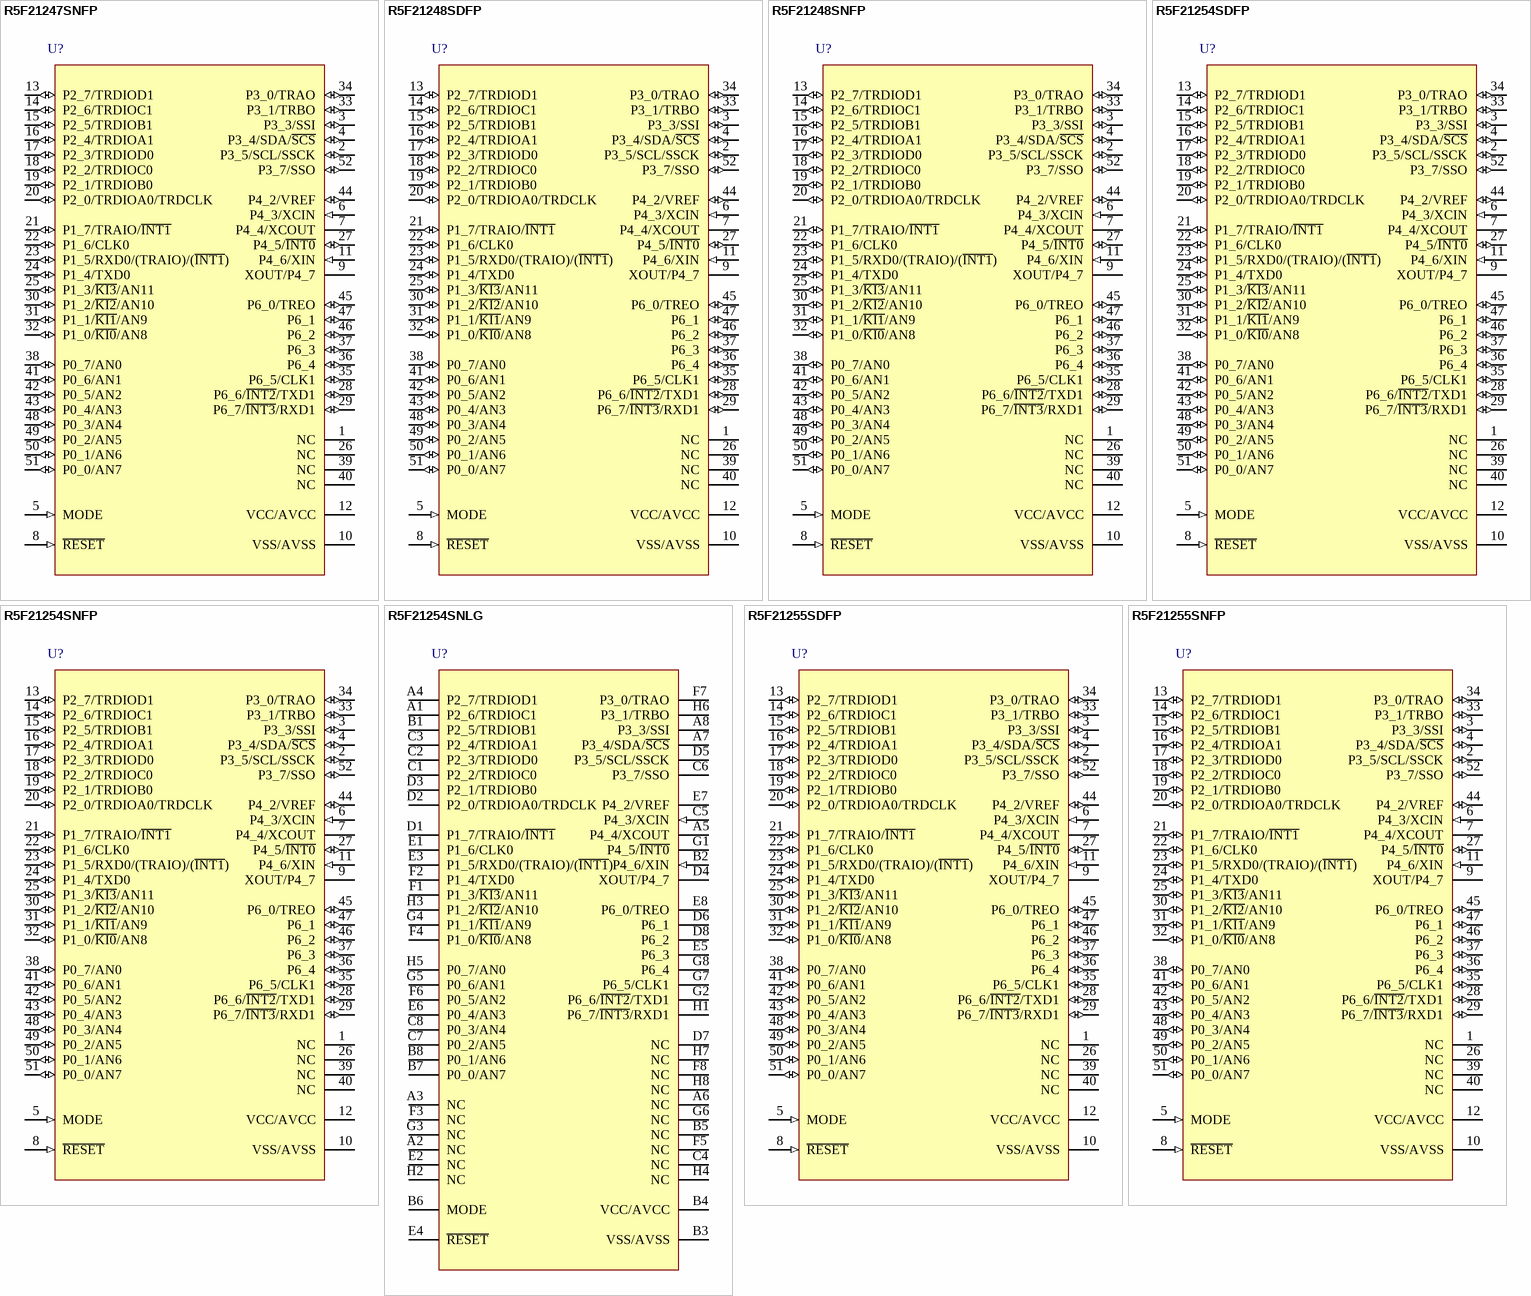
[diagram p84: symbols R5F21247SNFP to R5F21255SNFP]

## R5F21247SNFP
designator U?
R8C/24 Group Single Chip 16-Bit CMOS MCU, 48K ROM, 2.5K RAM, N Version; Published: 30-Oct-2009; DatasheetVersion: Rev.3.00, Feb-2008; PackageVersion: Nov-2007; PackageReference: PLQP0052JA-A; Publisher: Altium Limited; PackageDescription: 52-Pin Plastic Low Profile QFP, 10 x 10 x 1.4 mm Body, 0.65 mm Pitch; Code_JEITA: P-LQFP52-10x10-0.65; ComponentLink1Description: Manufacturer Link; ComponentLink1URL: http://sg.renesas.com/fmwk.jsp?cnt=r8c_family_landing.jsp&fp=/products/mpumcu/r8c_family/; ComponentLink2Description: Datasheet; ComponentLink2URL: http://documentation.renesas.com/eng/products/mpumcu/rej03b0117_r8c2425ds.pdf; ComponentLink3Description: Packaging Specification; ComponentLink3URL: http://sg.renesas.com/media/products/common_info/package/pdf/ic/code/plqp0052ja_a.pdf
footprint PLQP0052JA-A_N (QFP, 52-Leads, Body 10x10mm, Pitch 0.65mm, IPC Medium Density)
footprint PLQP0052JA-A_L (QFP, 52-Leads, Body 10x10mm, Pitch 0.65mm, IPC High Density)
footprint PLQP0052JA-A_M (QFP, 52-Leads, Body 10x10mm, Pitch 0.65mm, IPC Low Density)
pins: 1 NC, 2 P3_5/SCL/SSCK (io), 3 P3_3/SSI (io), 4 P3_4/SDA/~{SCS} (io), 5 MODE (in), 6 P4_3/XCIN (in), 7 P4_4/XCOUT, 8 ~{RESET} (in), 9 XOUT/P4_7, 10 VSS/AVSS (power), 11 P4_6/XIN (in), 12 VCC/AVCC (power), 13 P2_7/TRDIOD1 (io), 14 P2_6/TRDIOC1 (io), 15 P2_5/TRDIOB1 (io), 16 P2_4/TRDIOA1 (io), 17 P2_3/TRDIOD0 (io), 18 P2_2/TRDIOC0 (io), 19 P2_1/TRDIOB0 (io), 20 P2_0/TRDIOA0/TRDCLK (io), 21 P1_7/TRAIO/~{INT1} (io), 22 P1_6/CLK0 (io), 23 P1_5/RXD0/(TRAIO)/(~{INT1}) (io), 24 P1_4/TXD0 (io), 25 P1_3/~{KI3}/AN11 (io), 26 NC, 27 P4_5/~{INT0} (io), 28 P6_6/~{INT2}/TXD1 (io), 29 P6_7/~{INT3}/RXD1 (io), 30 P1_2/~{KI2}/AN10 (io), 31 P1_1/~{KI1}/AN9 (io), 32 P1_0/~{KI0}/AN8 (io), 33 P3_1/TRBO (io), 34 P3_0/TRAO (io), 35 P6_5/CLK1 (io), 36 P6_4 (io), 37 P6_3 (io), 38 P0_7/AN0 (io), 39 NC, 40 NC, 41 P0_6/AN1 (io), 42 P0_5/AN2 (io), 43 P0_4/AN3 (io), 44 P4_2/VREF (io), 45 P6_0/TREO (io), 46 P6_2 (io), 47 P6_1 (io), 48 P0_3/AN4 (io), 49 P0_2/AN5 (io), 50 P0_1/AN6 (io), 51 P0_0/AN7 (io), 52 P3_7/SSO (io)

## R5F21248SDFP
designator U?
R8C/24 Group Single Chip 16-Bit CMOS MCU, 64K ROM, 3K RAM, D Version; Published: 30-Oct-2009; DatasheetVersion: Rev.3.00, Feb-2008; PackageVersion: Nov-2007; PackageReference: PLQP0052JA-A; Publisher: Altium Limited; PackageDescription: 52-Pin Plastic Low Profile QFP, 10 x 10 x 1.4 mm Body, 0.65 mm Pitch; Code_JEITA: P-LQFP52-10x10-0.65; ComponentLink1Description: Manufacturer Link; ComponentLink1URL: http://sg.renesas.com/fmwk.jsp?cnt=r8c_family_landing.jsp&fp=/products/mpumcu/r8c_family/; ComponentLink2Description: Datasheet; ComponentLink2URL: http://documentation.renesas.com/eng/products/mpumcu/rej03b0117_r8c2425ds.pdf; ComponentLink3Description: Packaging Specification; ComponentLink3URL: http://sg.renesas.com/media/products/common_info/package/pdf/ic/code/plqp0052ja_a.pdf
footprint PLQP0052JA-A_N (QFP, 52-Leads, Body 10x10mm, Pitch 0.65mm, IPC Medium Density)
footprint PLQP0052JA-A_L (QFP, 52-Leads, Body 10x10mm, Pitch 0.65mm, IPC High Density)
footprint PLQP0052JA-A_M (QFP, 52-Leads, Body 10x10mm, Pitch 0.65mm, IPC Low Density)
pins: 1 NC, 2 P3_5/SCL/SSCK (io), 3 P3_3/SSI (io), 4 P3_4/SDA/~{SCS} (io), 5 MODE (in), 6 P4_3/XCIN (in), 7 P4_4/XCOUT, 8 ~{RESET} (in), 9 XOUT/P4_7, 10 VSS/AVSS (power), 11 P4_6/XIN (in), 12 VCC/AVCC (power), 13 P2_7/TRDIOD1 (io), 14 P2_6/TRDIOC1 (io), 15 P2_5/TRDIOB1 (io), 16 P2_4/TRDIOA1 (io), 17 P2_3/TRDIOD0 (io), 18 P2_2/TRDIOC0 (io), 19 P2_1/TRDIOB0 (io), 20 P2_0/TRDIOA0/TRDCLK (io), 21 P1_7/TRAIO/~{INT1} (io), 22 P1_6/CLK0 (io), 23 P1_5/RXD0/(TRAIO)/(~{INT1}) (io), 24 P1_4/TXD0 (io), 25 P1_3/~{KI3}/AN11 (io), 26 NC, 27 P4_5/~{INT0} (io), 28 P6_6/~{INT2}/TXD1 (io), 29 P6_7/~{INT3}/RXD1 (io), 30 P1_2/~{KI2}/AN10 (io), 31 P1_1/~{KI1}/AN9 (io), 32 P1_0/~{KI0}/AN8 (io), 33 P3_1/TRBO (io), 34 P3_0/TRAO (io), 35 P6_5/CLK1 (io), 36 P6_4 (io), 37 P6_3 (io), 38 P0_7/AN0 (io), 39 NC, 40 NC, 41 P0_6/AN1 (io), 42 P0_5/AN2 (io), 43 P0_4/AN3 (io), 44 P4_2/VREF (io), 45 P6_0/TREO (io), 46 P6_2 (io), 47 P6_1 (io), 48 P0_3/AN4 (io), 49 P0_2/AN5 (io), 50 P0_1/AN6 (io), 51 P0_0/AN7 (io), 52 P3_7/SSO (io)

## R5F21248SNFP
designator U?
R8C/24 Group Single Chip 16-Bit CMOS MCU, 64K ROM, 3K RAM, N Version; Published: 30-Oct-2009; DatasheetVersion: Rev.3.00, Feb-2008; PackageVersion: Nov-2007; PackageReference: PLQP0052JA-A; Publisher: Altium Limited; PackageDescription: 52-Pin Plastic Low Profile QFP, 10 x 10 x 1.4 mm Body, 0.65 mm Pitch; Code_JEITA: P-LQFP52-10x10-0.65; ComponentLink1Description: Manufacturer Link; ComponentLink1URL: http://sg.renesas.com/fmwk.jsp?cnt=r8c_family_landing.jsp&fp=/products/mpumcu/r8c_family/; ComponentLink2Description: Datasheet; ComponentLink2URL: http://documentation.renesas.com/eng/products/mpumcu/rej03b0117_r8c2425ds.pdf; ComponentLink3Description: Packaging Specification; ComponentLink3URL: http://sg.renesas.com/media/products/common_info/package/pdf/ic/code/plqp0052ja_a.pdf
footprint PLQP0052JA-A_N (QFP, 52-Leads, Body 10x10mm, Pitch 0.65mm, IPC Medium Density)
footprint PLQP0052JA-A_L (QFP, 52-Leads, Body 10x10mm, Pitch 0.65mm, IPC High Density)
footprint PLQP0052JA-A_M (QFP, 52-Leads, Body 10x10mm, Pitch 0.65mm, IPC Low Density)
pins: 1 NC, 2 P3_5/SCL/SSCK (io), 3 P3_3/SSI (io), 4 P3_4/SDA/~{SCS} (io), 5 MODE (in), 6 P4_3/XCIN (in), 7 P4_4/XCOUT, 8 ~{RESET} (in), 9 XOUT/P4_7, 10 VSS/AVSS (power), 11 P4_6/XIN (in), 12 VCC/AVCC (power), 13 P2_7/TRDIOD1 (io), 14 P2_6/TRDIOC1 (io), 15 P2_5/TRDIOB1 (io), 16 P2_4/TRDIOA1 (io), 17 P2_3/TRDIOD0 (io), 18 P2_2/TRDIOC0 (io), 19 P2_1/TRDIOB0 (io), 20 P2_0/TRDIOA0/TRDCLK (io), 21 P1_7/TRAIO/~{INT1} (io), 22 P1_6/CLK0 (io), 23 P1_5/RXD0/(TRAIO)/(~{INT1}) (io), 24 P1_4/TXD0 (io), 25 P1_3/~{KI3}/AN11 (io), 26 NC, 27 P4_5/~{INT0} (io), 28 P6_6/~{INT2}/TXD1 (io), 29 P6_7/~{INT3}/RXD1 (io), 30 P1_2/~{KI2}/AN10 (io), 31 P1_1/~{KI1}/AN9 (io), 32 P1_0/~{KI0}/AN8 (io), 33 P3_1/TRBO (io), 34 P3_0/TRAO (io), 35 P6_5/CLK1 (io), 36 P6_4 (io), 37 P6_3 (io), 38 P0_7/AN0 (io), 39 NC, 40 NC, 41 P0_6/AN1 (io), 42 P0_5/AN2 (io), 43 P0_4/AN3 (io), 44 P4_2/VREF (io), 45 P6_0/TREO (io), 46 P6_2 (io), 47 P6_1 (io), 48 P0_3/AN4 (io), 49 P0_2/AN5 (io), 50 P0_1/AN6 (io), 51 P0_0/AN7 (io), 52 P3_7/SSO (io)

## R5F21254SDFP
designator U?
R8C/25 Group Single Chip 16-Bit CMOS MCU, 16K ROM + 1K x2 Data Flash, 1K RAM, D Version; Published: 30-Oct-2009; DatasheetVersion: Rev.3.00, Feb-2008; PackageVersion: Nov-2007; PackageReference: PLQP0052JA-A; Publisher: Altium Limited; PackageDescription: 52-Pin Plastic Low Profile QFP, 10 x 10 x 1.4 mm Body, 0.65 mm Pitch; Code_JEITA: P-LQFP52-10x10-0.65; ComponentLink1Description: Manufacturer Link; ComponentLink1URL: http://sg.renesas.com/fmwk.jsp?cnt=r8c_family_landing.jsp&fp=/products/mpumcu/r8c_family/; ComponentLink2Description: Datasheet; ComponentLink2URL: http://documentation.renesas.com/eng/products/mpumcu/rej03b0117_r8c2425ds.pdf; ComponentLink3Description: Packaging Specification; ComponentLink3URL: http://sg.renesas.com/media/products/common_info/package/pdf/ic/code/plqp0052ja_a.pdf
footprint PLQP0052JA-A_N (QFP, 52-Leads, Body 10x10mm, Pitch 0.65mm, IPC Medium Density)
footprint PLQP0052JA-A_L (QFP, 52-Leads, Body 10x10mm, Pitch 0.65mm, IPC High Density)
footprint PLQP0052JA-A_M (QFP, 52-Leads, Body 10x10mm, Pitch 0.65mm, IPC Low Density)
pins: 1 NC, 2 P3_5/SCL/SSCK (io), 3 P3_3/SSI (io), 4 P3_4/SDA/~{SCS} (io), 5 MODE (in), 6 P4_3/XCIN (in), 7 P4_4/XCOUT, 8 ~{RESET} (in), 9 XOUT/P4_7, 10 VSS/AVSS (power), 11 P4_6/XIN (in), 12 VCC/AVCC (power), 13 P2_7/TRDIOD1 (io), 14 P2_6/TRDIOC1 (io), 15 P2_5/TRDIOB1 (io), 16 P2_4/TRDIOA1 (io), 17 P2_3/TRDIOD0 (io), 18 P2_2/TRDIOC0 (io), 19 P2_1/TRDIOB0 (io), 20 P2_0/TRDIOA0/TRDCLK (io), 21 P1_7/TRAIO/~{INT1} (io), 22 P1_6/CLK0 (io), 23 P1_5/RXD0/(TRAIO)/(~{INT1}) (io), 24 P1_4/TXD0 (io), 25 P1_3/~{KI3}/AN11 (io), 26 NC, 27 P4_5/~{INT0} (io), 28 P6_6/~{INT2}/TXD1 (io), 29 P6_7/~{INT3}/RXD1 (io), 30 P1_2/~{KI2}/AN10 (io), 31 P1_1/~{KI1}/AN9 (io), 32 P1_0/~{KI0}/AN8 (io), 33 P3_1/TRBO (io), 34 P3_0/TRAO (io), 35 P6_5/CLK1 (io), 36 P6_4 (io), 37 P6_3 (io), 38 P0_7/AN0 (io), 39 NC, 40 NC, 41 P0_6/AN1 (io), 42 P0_5/AN2 (io), 43 P0_4/AN3 (io), 44 P4_2/VREF (io), 45 P6_0/TREO (io), 46 P6_2 (io), 47 P6_1 (io), 48 P0_3/AN4 (io), 49 P0_2/AN5 (io), 50 P0_1/AN6 (io), 51 P0_0/AN7 (io), 52 P3_7/SSO (io)

## R5F21254SNFP
designator U?
R8C/25 Group Single Chip 16-Bit CMOS MCU, 16K ROM + 1K x2 Data Flash, 1K RAM, N Version; Published: 30-Oct-2009; DatasheetVersion: Rev.3.00, Feb-2008; PackageVersion: Nov-2007; PackageReference: PLQP0052JA-A; Publisher: Altium Limited; PackageDescription: 52-Pin Plastic Low Profile QFP, 10 x 10 x 1.4 mm Body, 0.65 mm Pitch; Code_JEITA: P-LQFP52-10x10-0.65; ComponentLink1Description: Manufacturer Link; ComponentLink1URL: http://sg.renesas.com/fmwk.jsp?cnt=r8c_family_landing.jsp&fp=/products/mpumcu/r8c_family/; ComponentLink2Description: Datasheet; ComponentLink2URL: http://documentation.renesas.com/eng/products/mpumcu/rej03b0117_r8c2425ds.pdf; ComponentLink3Description: Packaging Specification; ComponentLink3URL: http://sg.renesas.com/media/products/common_info/package/pdf/ic/code/plqp0052ja_a.pdf
footprint PLQP0052JA-A_N (QFP, 52-Leads, Body 10x10mm, Pitch 0.65mm, IPC Medium Density)
footprint PLQP0052JA-A_L (QFP, 52-Leads, Body 10x10mm, Pitch 0.65mm, IPC High Density)
footprint PLQP0052JA-A_M (QFP, 52-Leads, Body 10x10mm, Pitch 0.65mm, IPC Low Density)
pins: 1 NC, 2 P3_5/SCL/SSCK (io), 3 P3_3/SSI (io), 4 P3_4/SDA/~{SCS} (io), 5 MODE (in), 6 P4_3/XCIN (in), 7 P4_4/XCOUT, 8 ~{RESET} (in), 9 XOUT/P4_7, 10 VSS/AVSS (power), 11 P4_6/XIN (in), 12 VCC/AVCC (power), 13 P2_7/TRDIOD1 (io), 14 P2_6/TRDIOC1 (io), 15 P2_5/TRDIOB1 (io), 16 P2_4/TRDIOA1 (io), 17 P2_3/TRDIOD0 (io), 18 P2_2/TRDIOC0 (io), 19 P2_1/TRDIOB0 (io), 20 P2_0/TRDIOA0/TRDCLK (io), 21 P1_7/TRAIO/~{INT1} (io), 22 P1_6/CLK0 (io), 23 P1_5/RXD0/(TRAIO)/(~{INT1}) (io), 24 P1_4/TXD0 (io), 25 P1_3/~{KI3}/AN11 (io), 26 NC, 27 P4_5/~{INT0} (io), 28 P6_6/~{INT2}/TXD1 (io), 29 P6_7/~{INT3}/RXD1 (io), 30 P1_2/~{KI2}/AN10 (io), 31 P1_1/~{KI1}/AN9 (io), 32 P1_0/~{KI0}/AN8 (io), 33 P3_1/TRBO (io), 34 P3_0/TRAO (io), 35 P6_5/CLK1 (io), 36 P6_4 (io), 37 P6_3 (io), 38 P0_7/AN0 (io), 39 NC, 40 NC, 41 P0_6/AN1 (io), 42 P0_5/AN2 (io), 43 P0_4/AN3 (io), 44 P4_2/VREF (io), 45 P6_0/TREO (io), 46 P6_2 (io), 47 P6_1 (io), 48 P0_3/AN4 (io), 49 P0_2/AN5 (io), 50 P0_1/AN6 (io), 51 P0_0/AN7 (io), 52 P3_7/SSO (io)

## R5F21254SNLG
designator U?
R8C/25 Group Single Chip 16-Bit CMOS MCU, 16K ROM + 1K x2 Data Flash, 1K RAM, N Version; Published: 30-Oct-2009; DatasheetVersion: Rev.3.00, Feb-2008; PackageVersion: Sep-2005; PackageReference: PTLG0064JA-A; Publisher: Altium Limited; PackageDescription: 64-Ball Plastic Thin Fine-Pitch BGA, 6 x 6 mm Body, 0.65 mm Pitch; Code_JEITA: P-TFLGA64-6x6-0.65; ComponentLink1Description: Manufacturer Link; ComponentLink1URL: http://sg.renesas.com/fmwk.jsp?cnt=r8c_family_landing.jsp&fp=/products/mpumcu/r8c_family/; ComponentLink2Description: Datasheet; ComponentLink2URL: http://documentation.renesas.com/eng/products/mpumcu/rej03b0117_r8c2425ds.pdf; ComponentLink3Description: Packaging Specification; ComponentLink3URL: http://sg.renesas.com/media/products/common_info/package/pdf/ic/code/ptlg0064ja_a.pdf
footprint PTLG0064JA-A (BGA, 64-Leads, Body 6x6mm, Pitch 0.65mm)
pins: A1 P2_6/TRDIOC1, A2 NC, A3 NC, A4 P2_7/TRDIOD1, A5 P4_4/XCOUT, A6 NC, A7 P3_4/SDA/~{SCS}, A8 P3_3/SSI, B1 P2_5/TRDIOB1, B2 P4_6/XIN (in), B3 VSS/AVSS, B4 VCC/AVCC, B5 NC, B6 MODE, B7 P0_0/AN7, B8 P0_1/AN6, C1 P2_2/TRDIOC0, C2 P2_3/TRDIOD0, C3 P2_4/TRDIOA1, C4 NC, C5 P4_3/XCIN (in), C6 P3_7/SSO, C7 P0_2/AN5, C8 P0_3/AN4, D1 P1_7/TRAIO/~{INT1}, D2 P2_0/TRDIOA0/TRDCLK, D3 P2_1/TRDIOB0, D4 XOUT/P4_7, D5 P3_5/SCL/SSCK, D6 P6_1, D7 NC, D8 P6_2, E1 P1_6/CLK0, E2 NC, E3 P1_5/RXD0/(TRAIO)/(~{INT1}), E4 ~{RESET}, E5 P6_3, E6 P0_4/AN3, E7 P4_2/VREF, E8 P6_0/TREO, F1 P1_3/~{KI3}/AN11, F2 P1_4/TXD0, F3 NC, F4 P1_0/~{KI0}/AN8, F5 NC, F6 P0_5/AN2, F7 P3_0/TRAO, F8 NC, G1 P4_5/~{INT0}, G2 P6_6/~{INT2}/TXD1, G3 NC, G4 P1_1/~{KI1}/AN9, G5 P0_6/AN1, G6 NC, G7 P6_5/CLK1, G8 P6_4, H1 P6_7/~{INT3}/RXD1, H2 NC, H3 P1_2/~{KI2}/AN10, H4 NC, H5 P0_7/AN0, H6 P3_1/TRBO, H7 NC, H8 NC

## R5F21255SDFP
designator U?
R8C/25 Group Single Chip 16-Bit CMOS MCU, 24K ROM + 1K x2 Data Flash, 2K RAM, D Version; Published: 30-Oct-2009; DatasheetVersion: Rev.3.00, Feb-2008; PackageVersion: Nov-2007; PackageReference: PLQP0052JA-A; Publisher: Altium Limited; PackageDescription: 52-Pin Plastic Low Profile QFP, 10 x 10 x 1.4 mm Body, 0.65 mm Pitch; Code_JEITA: P-LQFP52-10x10-0.65; ComponentLink1Description: Manufacturer Link; ComponentLink1URL: http://sg.renesas.com/fmwk.jsp?cnt=r8c_family_landing.jsp&fp=/products/mpumcu/r8c_family/; ComponentLink2Description: Datasheet; ComponentLink2URL: http://documentation.renesas.com/eng/products/mpumcu/rej03b0117_r8c2425ds.pdf; ComponentLink3Description: Packaging Specification; ComponentLink3URL: http://sg.renesas.com/media/products/common_info/package/pdf/ic/code/plqp0052ja_a.pdf
footprint PLQP0052JA-A_N (QFP, 52-Leads, Body 10x10mm, Pitch 0.65mm, IPC Medium Density)
footprint PLQP0052JA-A_L (QFP, 52-Leads, Body 10x10mm, Pitch 0.65mm, IPC High Density)
footprint PLQP0052JA-A_M (QFP, 52-Leads, Body 10x10mm, Pitch 0.65mm, IPC Low Density)
pins: 1 NC, 2 P3_5/SCL/SSCK (io), 3 P3_3/SSI (io), 4 P3_4/SDA/~{SCS} (io), 5 MODE (in), 6 P4_3/XCIN (in), 7 P4_4/XCOUT, 8 ~{RESET} (in), 9 XOUT/P4_7, 10 VSS/AVSS (power), 11 P4_6/XIN (in), 12 VCC/AVCC (power), 13 P2_7/TRDIOD1 (io), 14 P2_6/TRDIOC1 (io), 15 P2_5/TRDIOB1 (io), 16 P2_4/TRDIOA1 (io), 17 P2_3/TRDIOD0 (io), 18 P2_2/TRDIOC0 (io), 19 P2_1/TRDIOB0 (io), 20 P2_0/TRDIOA0/TRDCLK (io), 21 P1_7/TRAIO/~{INT1} (io), 22 P1_6/CLK0 (io), 23 P1_5/RXD0/(TRAIO)/(~{INT1}) (io), 24 P1_4/TXD0 (io), 25 P1_3/~{KI3}/AN11 (io), 26 NC, 27 P4_5/~{INT0} (io), 28 P6_6/~{INT2}/TXD1 (io), 29 P6_7/~{INT3}/RXD1 (io), 30 P1_2/~{KI2}/AN10 (io), 31 P1_1/~{KI1}/AN9 (io), 32 P1_0/~{KI0}/AN8 (io), 33 P3_1/TRBO (io), 34 P3_0/TRAO (io), 35 P6_5/CLK1 (io), 36 P6_4 (io), 37 P6_3 (io), 38 P0_7/AN0 (io), 39 NC, 40 NC, 41 P0_6/AN1 (io), 42 P0_5/AN2 (io), 43 P0_4/AN3 (io), 44 P4_2/VREF (io), 45 P6_0/TREO (io), 46 P6_2 (io), 47 P6_1 (io), 48 P0_3/AN4 (io), 49 P0_2/AN5 (io), 50 P0_1/AN6 (io), 51 P0_0/AN7 (io), 52 P3_7/SSO (io)

## R5F21255SNFP
designator U?
R8C/25 Group Single Chip 16-Bit CMOS MCU, 24K ROM + 1K x2 Data Flash, 2K RAM, N Version; Published: 30-Oct-2009; DatasheetVersion: Rev.3.00, Feb-2008; PackageVersion: Nov-2007; PackageReference: PLQP0052JA-A; Publisher: Altium Limited; PackageDescription: 52-Pin Plastic Low Profile QFP, 10 x 10 x 1.4 mm Body, 0.65 mm Pitch; Code_JEITA: P-LQFP52-10x10-0.65; ComponentLink1Description: Manufacturer Link; ComponentLink1URL: http://sg.renesas.com/fmwk.jsp?cnt=r8c_family_landing.jsp&fp=/products/mpumcu/r8c_family/; ComponentLink2Description: Datasheet; ComponentLink2URL: http://documentation.renesas.com/eng/products/mpumcu/rej03b0117_r8c2425ds.pdf; ComponentLink3Description: Packaging Specification; ComponentLink3URL: http://sg.renesas.com/media/products/common_info/package/pdf/ic/code/plqp0052ja_a.pdf
footprint PLQP0052JA-A_N (QFP, 52-Leads, Body 10x10mm, Pitch 0.65mm, IPC Medium Density)
footprint PLQP0052JA-A_L (QFP, 52-Leads, Body 10x10mm, Pitch 0.65mm, IPC High Density)
footprint PLQP0052JA-A_M (QFP, 52-Leads, Body 10x10mm, Pitch 0.65mm, IPC Low Density)
pins: 1 NC, 2 P3_5/SCL/SSCK (io), 3 P3_3/SSI (io), 4 P3_4/SDA/~{SCS} (io), 5 MODE (in), 6 P4_3/XCIN (in), 7 P4_4/XCOUT, 8 ~{RESET} (in), 9 XOUT/P4_7, 10 VSS/AVSS (power), 11 P4_6/XIN (in), 12 VCC/AVCC (power), 13 P2_7/TRDIOD1 (io), 14 P2_6/TRDIOC1 (io), 15 P2_5/TRDIOB1 (io), 16 P2_4/TRDIOA1 (io), 17 P2_3/TRDIOD0 (io), 18 P2_2/TRDIOC0 (io), 19 P2_1/TRDIOB0 (io), 20 P2_0/TRDIOA0/TRDCLK (io), 21 P1_7/TRAIO/~{INT1} (io), 22 P1_6/CLK0 (io), 23 P1_5/RXD0/(TRAIO)/(~{INT1}) (io), 24 P1_4/TXD0 (io), 25 P1_3/~{KI3}/AN11 (io), 26 NC, 27 P4_5/~{INT0} (io), 28 P6_6/~{INT2}/TXD1 (io), 29 P6_7/~{INT3}/RXD1 (io), 30 P1_2/~{KI2}/AN10 (io), 31 P1_1/~{KI1}/AN9 (io), 32 P1_0/~{KI0}/AN8 (io), 33 P3_1/TRBO (io), 34 P3_0/TRAO (io), 35 P6_5/CLK1 (io), 36 P6_4 (io), 37 P6_3 (io), 38 P0_7/AN0 (io), 39 NC, 40 NC, 41 P0_6/AN1 (io), 42 P0_5/AN2 (io), 43 P0_4/AN3 (io), 44 P4_2/VREF (io), 45 P6_0/TREO (io), 46 P6_2 (io), 47 P6_1 (io), 48 P0_3/AN4 (io), 49 P0_2/AN5 (io), 50 P0_1/AN6 (io), 51 P0_0/AN7 (io), 52 P3_7/SSO (io)

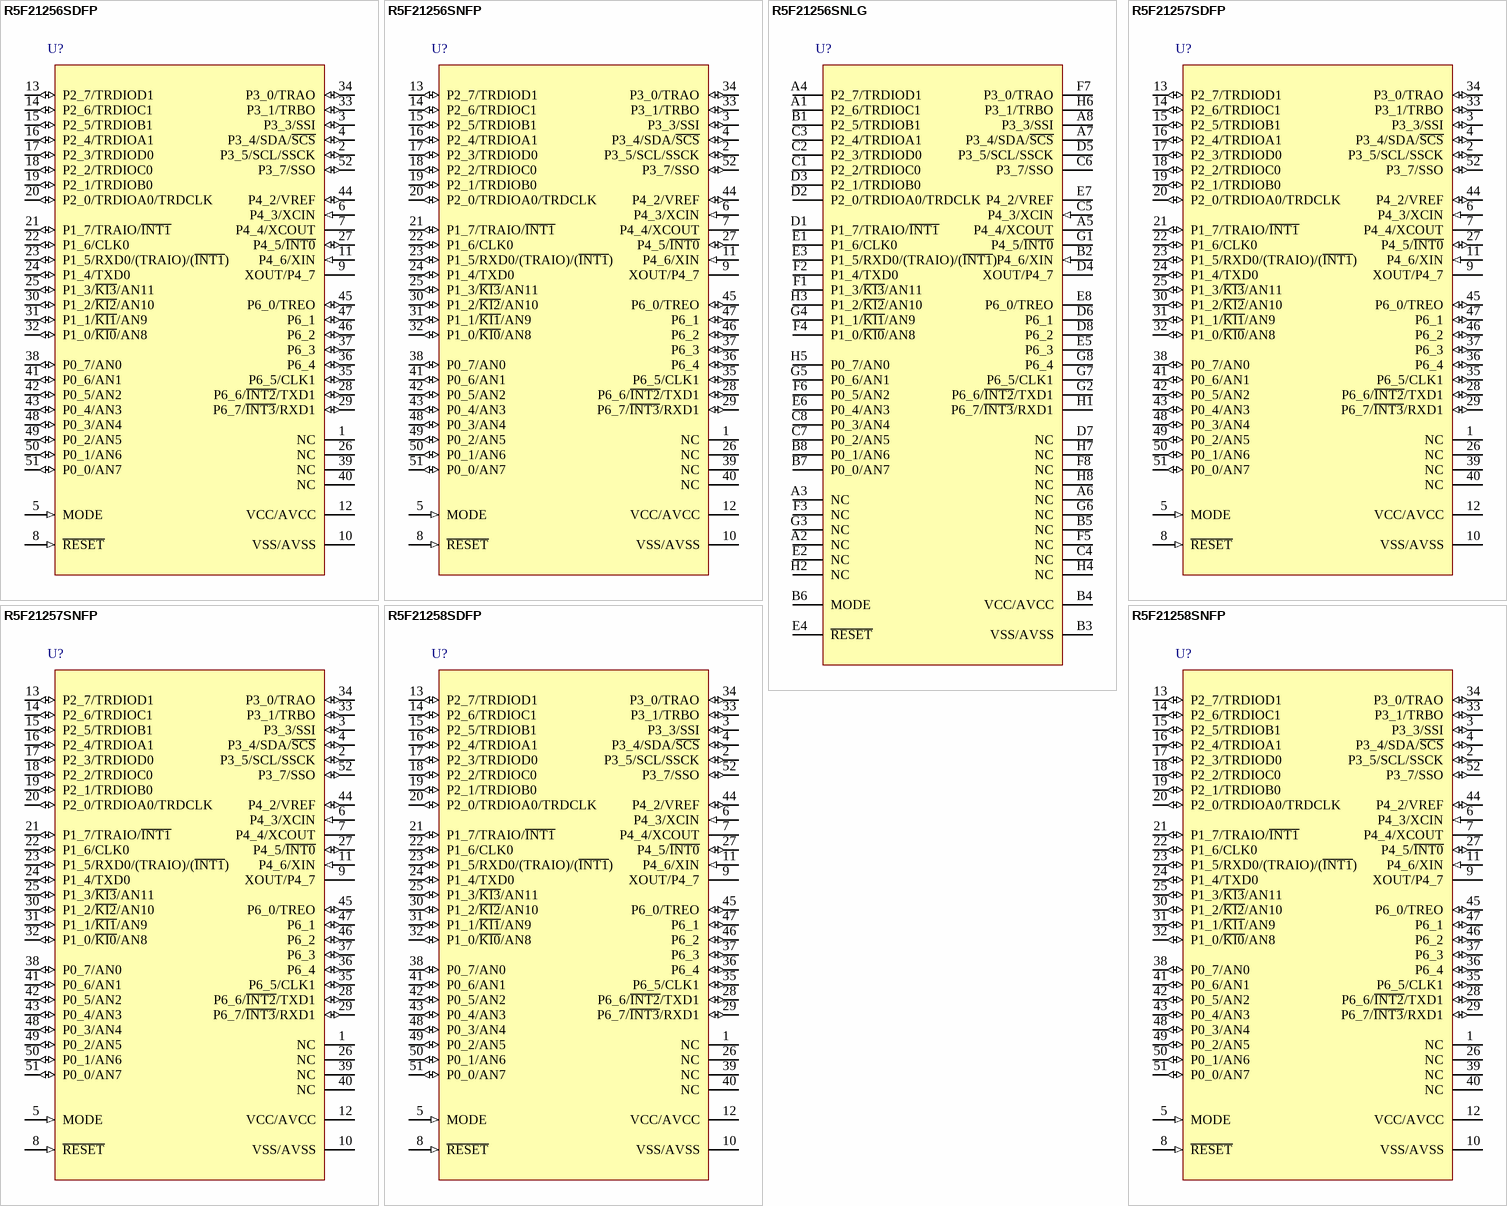
[diagram p85: symbols R5F21256SDFP to R5F21258SNFP]

## R5F21256SDFP
designator U?
R8C/25 Group Single Chip 16-Bit CMOS MCU, 32K ROM + 1K x2 Data Flash, 2K RAM, D Version; Published: 30-Oct-2009; DatasheetVersion: Rev.3.00, Feb-2008; PackageVersion: Nov-2007; PackageReference: PLQP0052JA-A; Publisher: Altium Limited; PackageDescription: 52-Pin Plastic Low Profile QFP, 10 x 10 x 1.4 mm Body, 0.65 mm Pitch; Code_JEITA: P-LQFP52-10x10-0.65; ComponentLink1Description: Manufacturer Link; ComponentLink1URL: http://sg.renesas.com/fmwk.jsp?cnt=r8c_family_landing.jsp&fp=/products/mpumcu/r8c_family/; ComponentLink2Description: Datasheet; ComponentLink2URL: http://documentation.renesas.com/eng/products/mpumcu/rej03b0117_r8c2425ds.pdf; ComponentLink3Description: Packaging Specification; ComponentLink3URL: http://sg.renesas.com/media/products/common_info/package/pdf/ic/code/plqp0052ja_a.pdf
footprint PLQP0052JA-A_N (QFP, 52-Leads, Body 10x10mm, Pitch 0.65mm, IPC Medium Density)
footprint PLQP0052JA-A_L (QFP, 52-Leads, Body 10x10mm, Pitch 0.65mm, IPC High Density)
footprint PLQP0052JA-A_M (QFP, 52-Leads, Body 10x10mm, Pitch 0.65mm, IPC Low Density)
pins: 1 NC, 2 P3_5/SCL/SSCK (io), 3 P3_3/SSI (io), 4 P3_4/SDA/~{SCS} (io), 5 MODE (in), 6 P4_3/XCIN (in), 7 P4_4/XCOUT, 8 ~{RESET} (in), 9 XOUT/P4_7, 10 VSS/AVSS (power), 11 P4_6/XIN (in), 12 VCC/AVCC (power), 13 P2_7/TRDIOD1 (io), 14 P2_6/TRDIOC1 (io), 15 P2_5/TRDIOB1 (io), 16 P2_4/TRDIOA1 (io), 17 P2_3/TRDIOD0 (io), 18 P2_2/TRDIOC0 (io), 19 P2_1/TRDIOB0 (io), 20 P2_0/TRDIOA0/TRDCLK (io), 21 P1_7/TRAIO/~{INT1} (io), 22 P1_6/CLK0 (io), 23 P1_5/RXD0/(TRAIO)/(~{INT1}) (io), 24 P1_4/TXD0 (io), 25 P1_3/~{KI3}/AN11 (io), 26 NC, 27 P4_5/~{INT0} (io), 28 P6_6/~{INT2}/TXD1 (io), 29 P6_7/~{INT3}/RXD1 (io), 30 P1_2/~{KI2}/AN10 (io), 31 P1_1/~{KI1}/AN9 (io), 32 P1_0/~{KI0}/AN8 (io), 33 P3_1/TRBO (io), 34 P3_0/TRAO (io), 35 P6_5/CLK1 (io), 36 P6_4 (io), 37 P6_3 (io), 38 P0_7/AN0 (io), 39 NC, 40 NC, 41 P0_6/AN1 (io), 42 P0_5/AN2 (io), 43 P0_4/AN3 (io), 44 P4_2/VREF (io), 45 P6_0/TREO (io), 46 P6_2 (io), 47 P6_1 (io), 48 P0_3/AN4 (io), 49 P0_2/AN5 (io), 50 P0_1/AN6 (io), 51 P0_0/AN7 (io), 52 P3_7/SSO (io)

## R5F21256SNFP
designator U?
R8C/25 Group Single Chip 16-Bit CMOS MCU, 32K ROM + 1K x2 Data Flash, 2K RAM, N Version; Published: 30-Oct-2009; DatasheetVersion: Rev.3.00, Feb-2008; PackageVersion: Nov-2007; PackageReference: PLQP0052JA-A; Publisher: Altium Limited; PackageDescription: 52-Pin Plastic Low Profile QFP, 10 x 10 x 1.4 mm Body, 0.65 mm Pitch; Code_JEITA: P-LQFP52-10x10-0.65; ComponentLink1Description: Manufacturer Link; ComponentLink1URL: http://sg.renesas.com/fmwk.jsp?cnt=r8c_family_landing.jsp&fp=/products/mpumcu/r8c_family/; ComponentLink2Description: Datasheet; ComponentLink2URL: http://documentation.renesas.com/eng/products/mpumcu/rej03b0117_r8c2425ds.pdf; ComponentLink3Description: Packaging Specification; ComponentLink3URL: http://sg.renesas.com/media/products/common_info/package/pdf/ic/code/plqp0052ja_a.pdf
footprint PLQP0052JA-A_N (QFP, 52-Leads, Body 10x10mm, Pitch 0.65mm, IPC Medium Density)
footprint PLQP0052JA-A_L (QFP, 52-Leads, Body 10x10mm, Pitch 0.65mm, IPC High Density)
footprint PLQP0052JA-A_M (QFP, 52-Leads, Body 10x10mm, Pitch 0.65mm, IPC Low Density)
pins: 1 NC, 2 P3_5/SCL/SSCK (io), 3 P3_3/SSI (io), 4 P3_4/SDA/~{SCS} (io), 5 MODE (in), 6 P4_3/XCIN (in), 7 P4_4/XCOUT, 8 ~{RESET} (in), 9 XOUT/P4_7, 10 VSS/AVSS (power), 11 P4_6/XIN (in), 12 VCC/AVCC (power), 13 P2_7/TRDIOD1 (io), 14 P2_6/TRDIOC1 (io), 15 P2_5/TRDIOB1 (io), 16 P2_4/TRDIOA1 (io), 17 P2_3/TRDIOD0 (io), 18 P2_2/TRDIOC0 (io), 19 P2_1/TRDIOB0 (io), 20 P2_0/TRDIOA0/TRDCLK (io), 21 P1_7/TRAIO/~{INT1} (io), 22 P1_6/CLK0 (io), 23 P1_5/RXD0/(TRAIO)/(~{INT1}) (io), 24 P1_4/TXD0 (io), 25 P1_3/~{KI3}/AN11 (io), 26 NC, 27 P4_5/~{INT0} (io), 28 P6_6/~{INT2}/TXD1 (io), 29 P6_7/~{INT3}/RXD1 (io), 30 P1_2/~{KI2}/AN10 (io), 31 P1_1/~{KI1}/AN9 (io), 32 P1_0/~{KI0}/AN8 (io), 33 P3_1/TRBO (io), 34 P3_0/TRAO (io), 35 P6_5/CLK1 (io), 36 P6_4 (io), 37 P6_3 (io), 38 P0_7/AN0 (io), 39 NC, 40 NC, 41 P0_6/AN1 (io), 42 P0_5/AN2 (io), 43 P0_4/AN3 (io), 44 P4_2/VREF (io), 45 P6_0/TREO (io), 46 P6_2 (io), 47 P6_1 (io), 48 P0_3/AN4 (io), 49 P0_2/AN5 (io), 50 P0_1/AN6 (io), 51 P0_0/AN7 (io), 52 P3_7/SSO (io)

## R5F21256SNLG
designator U?
R8C/25 Group Single Chip 16-Bit CMOS MCU, 32K ROM + 1K x2 Data Flash, 2K RAM, N Version; Published: 30-Oct-2009; DatasheetVersion: Rev.3.00, Feb-2008; PackageVersion: Sep-2005; PackageReference: PTLG0064JA-A; Publisher: Altium Limited; PackageDescription: 64-Ball Plastic Thin Fine-Pitch BGA, 6 x 6 mm Body, 0.65 mm Pitch; Code_JEITA: P-TFLGA64-6x6-0.65; ComponentLink1Description: Manufacturer Link; ComponentLink1URL: http://sg.renesas.com/fmwk.jsp?cnt=r8c_family_landing.jsp&fp=/products/mpumcu/r8c_family/; ComponentLink2Description: Datasheet; ComponentLink2URL: http://documentation.renesas.com/eng/products/mpumcu/rej03b0117_r8c2425ds.pdf; ComponentLink3Description: Packaging Specification; ComponentLink3URL: http://sg.renesas.com/media/products/common_info/package/pdf/ic/code/ptlg0064ja_a.pdf
footprint PTLG0064JA-A (BGA, 64-Leads, Body 6x6mm, Pitch 0.65mm)
pins: A1 P2_6/TRDIOC1, A2 NC, A3 NC, A4 P2_7/TRDIOD1, A5 P4_4/XCOUT, A6 NC, A7 P3_4/SDA/~{SCS}, A8 P3_3/SSI, B1 P2_5/TRDIOB1, B2 P4_6/XIN (in), B3 VSS/AVSS, B4 VCC/AVCC, B5 NC, B6 MODE, B7 P0_0/AN7, B8 P0_1/AN6, C1 P2_2/TRDIOC0, C2 P2_3/TRDIOD0, C3 P2_4/TRDIOA1, C4 NC, C5 P4_3/XCIN (in), C6 P3_7/SSO, C7 P0_2/AN5, C8 P0_3/AN4, D1 P1_7/TRAIO/~{INT1}, D2 P2_0/TRDIOA0/TRDCLK, D3 P2_1/TRDIOB0, D4 XOUT/P4_7, D5 P3_5/SCL/SSCK, D6 P6_1, D7 NC, D8 P6_2, E1 P1_6/CLK0, E2 NC, E3 P1_5/RXD0/(TRAIO)/(~{INT1}), E4 ~{RESET}, E5 P6_3, E6 P0_4/AN3, E7 P4_2/VREF, E8 P6_0/TREO, F1 P1_3/~{KI3}/AN11, F2 P1_4/TXD0, F3 NC, F4 P1_0/~{KI0}/AN8, F5 NC, F6 P0_5/AN2, F7 P3_0/TRAO, F8 NC, G1 P4_5/~{INT0}, G2 P6_6/~{INT2}/TXD1, G3 NC, G4 P1_1/~{KI1}/AN9, G5 P0_6/AN1, G6 NC, G7 P6_5/CLK1, G8 P6_4, H1 P6_7/~{INT3}/RXD1, H2 NC, H3 P1_2/~{KI2}/AN10, H4 NC, H5 P0_7/AN0, H6 P3_1/TRBO, H7 NC, H8 NC

## R5F21257SDFP
designator U?
R8C/25 Group Single Chip 16-Bit CMOS MCU, 48K ROM + 1K x2 Data Flash, 2.5K RAM, D Version; Published: 30-Oct-2009; DatasheetVersion: Rev.3.00, Feb-2008; PackageVersion: Nov-2007; PackageReference: PLQP0052JA-A; Publisher: Altium Limited; PackageDescription: 52-Pin Plastic Low Profile QFP, 10 x 10 x 1.4 mm Body, 0.65 mm Pitch; Code_JEITA: P-LQFP52-10x10-0.65; ComponentLink1Description: Manufacturer Link; ComponentLink1URL: http://sg.renesas.com/fmwk.jsp?cnt=r8c_family_landing.jsp&fp=/products/mpumcu/r8c_family/; ComponentLink2Description: Datasheet; ComponentLink2URL: http://documentation.renesas.com/eng/products/mpumcu/rej03b0117_r8c2425ds.pdf; ComponentLink3Description: Packaging Specification; ComponentLink3URL: http://sg.renesas.com/media/products/common_info/package/pdf/ic/code/plqp0052ja_a.pdf
footprint PLQP0052JA-A_N (QFP, 52-Leads, Body 10x10mm, Pitch 0.65mm, IPC Medium Density)
footprint PLQP0052JA-A_L (QFP, 52-Leads, Body 10x10mm, Pitch 0.65mm, IPC High Density)
footprint PLQP0052JA-A_M (QFP, 52-Leads, Body 10x10mm, Pitch 0.65mm, IPC Low Density)
pins: 1 NC, 2 P3_5/SCL/SSCK (io), 3 P3_3/SSI (io), 4 P3_4/SDA/~{SCS} (io), 5 MODE (in), 6 P4_3/XCIN (in), 7 P4_4/XCOUT, 8 ~{RESET} (in), 9 XOUT/P4_7, 10 VSS/AVSS (power), 11 P4_6/XIN (in), 12 VCC/AVCC (power), 13 P2_7/TRDIOD1 (io), 14 P2_6/TRDIOC1 (io), 15 P2_5/TRDIOB1 (io), 16 P2_4/TRDIOA1 (io), 17 P2_3/TRDIOD0 (io), 18 P2_2/TRDIOC0 (io), 19 P2_1/TRDIOB0 (io), 20 P2_0/TRDIOA0/TRDCLK (io), 21 P1_7/TRAIO/~{INT1} (io), 22 P1_6/CLK0 (io), 23 P1_5/RXD0/(TRAIO)/(~{INT1}) (io), 24 P1_4/TXD0 (io), 25 P1_3/~{KI3}/AN11 (io), 26 NC, 27 P4_5/~{INT0} (io), 28 P6_6/~{INT2}/TXD1 (io), 29 P6_7/~{INT3}/RXD1 (io), 30 P1_2/~{KI2}/AN10 (io), 31 P1_1/~{KI1}/AN9 (io), 32 P1_0/~{KI0}/AN8 (io), 33 P3_1/TRBO (io), 34 P3_0/TRAO (io), 35 P6_5/CLK1 (io), 36 P6_4 (io), 37 P6_3 (io), 38 P0_7/AN0 (io), 39 NC, 40 NC, 41 P0_6/AN1 (io), 42 P0_5/AN2 (io), 43 P0_4/AN3 (io), 44 P4_2/VREF (io), 45 P6_0/TREO (io), 46 P6_2 (io), 47 P6_1 (io), 48 P0_3/AN4 (io), 49 P0_2/AN5 (io), 50 P0_1/AN6 (io), 51 P0_0/AN7 (io), 52 P3_7/SSO (io)